# Altium schematic symbol library Audio.SchLib: 96 symbols (part 1 of 2)
Pins are listed as number, name and electrical type; pins without a type are passive.

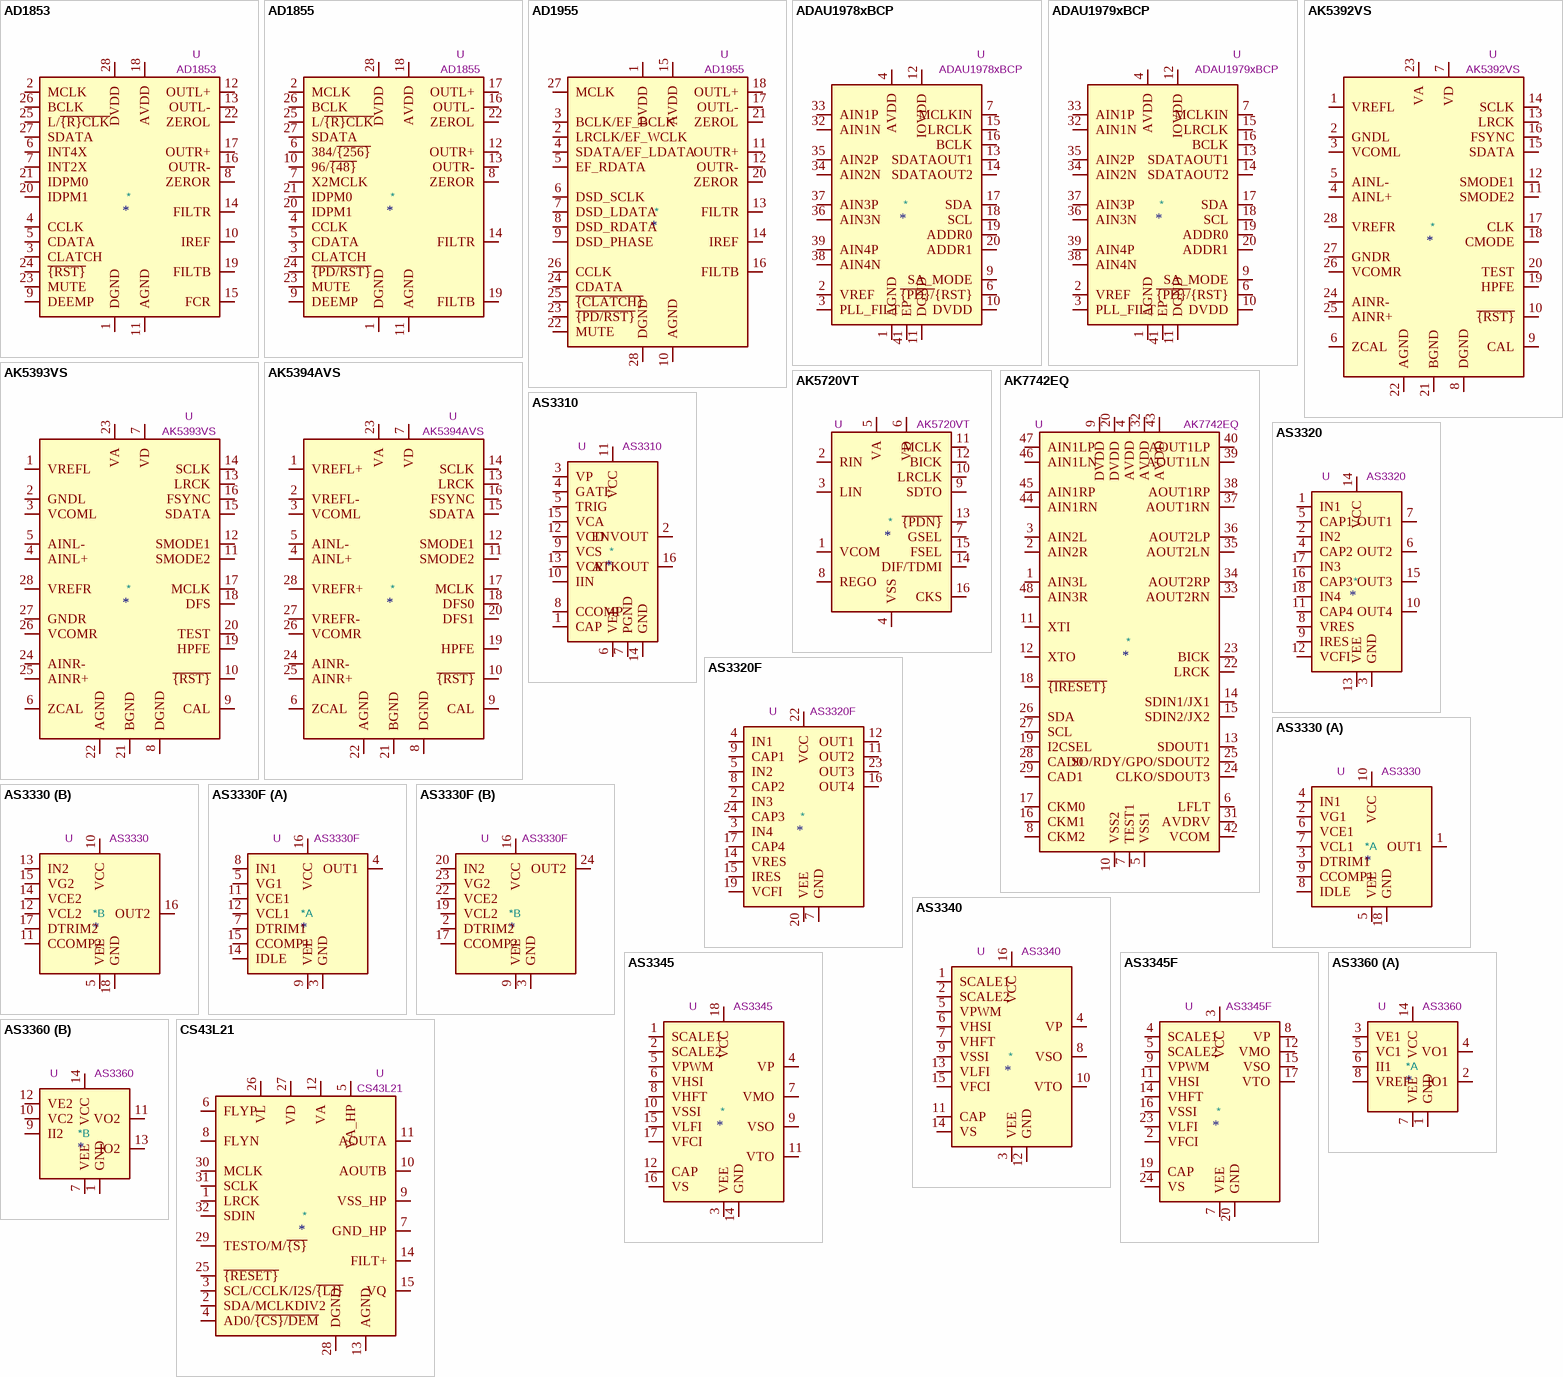
[diagram p0: symbols AD1853 to CS43L21]

## AD1853
designator *  value AD1853  Reference: U
ki_keywords: audio dac 2ch 24bit 192kHz; ki_description: Stereo, 24-Bit, 192 kHz, Multibit Sigma-Delta DAC, SSOP-28; ki_fp_filters: SSOP*5.3x10.2mm*P0.65mm*; Footprint: Package_SO:SSOP-28_5.3x10.2mm_P0.65mm; Datasheet: https://www.analog.com/media/en/technical-documentation/data-sheets/AD1853.pdf
pins: 1 DGND, 2 MCLK, 3 CLATCH, 4 CCLK, 5 CDATA, 6 INT4X, 7 INT2X, 8 ZEROR, 9 DEEMP, 10 IREF, 11 AGND, 12 OUTL+, 13 OUTL-, 14 FILTR, 15 FCR, 16 OUTR-, 17 OUTR+, 18 AVDD, 19 FILTB, 20 IDPM1, 21 IDPM0, 22 ZEROL, 23 MUTE, 24 ~{{RST}}, 25 L/~{{R}CLK}, 26 BCLK, 27 SDATA, 28 DVDD

## AD1855
designator *  value AD1855  Reference: U
ki_keywords: audio dac 2ch 24bit 96kHz; ki_description: Stereo, 96 kHz, Multibit Sigma-Delta DAC, SSOP-28; ki_fp_filters: SSOP*5.3x10.2mm*P0.65mm*; Footprint: Package_SO:SSOP-28_5.3x10.2mm_P0.65mm; Datasheet: https://www.analog.com/media/en/technical-documentation/data-sheets/AD1855.pdf
pins: 1 DGND, 2 MCLK, 3 CLATCH, 4 CCLK, 5 CDATA, 6 384/~{{256}}, 7 X2MCLK, 8 ZEROR, 9 DEEMP, 10 96/~{{48}}, 11 AGND, 12 OUTR+, 13 OUTR-, 14 FILTR, 15 AGND hidden, 16 OUTL-, 17 OUTL+, 18 AVDD, 19 FILTB, 20 IDPM1, 21 IDPM0, 22 ZEROL, 23 MUTE, 24 ~{{PD/RST}}, 25 L/~{{R}CLK}, 26 BCLK, 27 SDATA, 28 DVDD

## AD1955
designator *  value AD1955  Reference: U
ki_keywords: audio dac 2ch 24bit 192kHz; ki_description: High Performance Multibit Sigma-Delta DAC with SACD Playback, SSOP-28; ki_fp_filters: SSOP*5.3x10.2mm*P0.65mm*; Footprint: Package_SO:SSOP-28_5.3x10.2mm_P0.65mm; Datasheet: https://www.analog.com/media/en/technical-documentation/data-sheets/AD1955.pdf
pins: 1 DVDD, 2 LRCLK/EF_WCLK, 3 BCLK/EF_BCLK, 4 SDATA/EF_LDATA, 5 EF_RDATA, 6 DSD_SCLK, 7 DSD_LDATA, 8 DSD_RDATA, 9 DSD_PHASE, 10 AGND, 11 OUTR+, 12 OUTR-, 13 FILTR, 14 IREF, 15 AVDD, 16 FILTB, 17 OUTL-, 18 OUTL+, 19 AGND hidden, 20 ZEROR, 21 ZEROL, 22 MUTE, 23 ~{{PD/RST}}, 24 CDATA, 25 ~{{CLATCH}}, 26 CCLK, 27 MCLK, 28 DGND

## ADAU1978xBCP
designator *  value ADAU1978xBCP  Reference: U
ki_keywords: Audio ADC I2S TDM; ki_description: Quad Analog-to-Digital Converter, 2Vrms differential inputs, LFCSP-40; ki_fp_filters: LFCSP*1EP*6x6mm*P0.5mm*EP3.9x3.9mm*; Footprint: Package_CSP:LFCSP-40-1EP_6x6mm_P0.5mm_EP3.9x3.9mm; Datasheet: https://www.analog.com/media/en/technical-documentation/data-sheets/ADAU1978.pdf
pins: 1 AGND, 2 VREF, 3 PLL_FILT, 4 AVDD, 5 AGND hidden, 6 ~{{PD}/}{RST}, 7 MCLKIN, 8 NC hidden, 9 SA_MODE, 10 DVDD, 11 DGND, 12 IOVDD, 13 SDATAOUT1, 14 SDATAOUT2, 15 LRCLK, 16 BCLK, 17 SDA, 18 SCL, 19 ADDR0, 20 ADDR1, 21 AGND hidden, 22 AGND hidden, 23 NC hidden, 24 NC hidden, 25 NC hidden, 26 NC hidden, 27 NC hidden, 28 AGND hidden, 29 AGND hidden, 30 NC hidden, 31 AVDD hidden, 32 AIN1N, 33 AIN1P, 34 AIN2N, 35 AIN2P, 36 AIN3N, 37 AIN3P, 38 AIN4N, 39 AIN4P, 40 AVDD hidden, 41 EP

## ADAU1979xBCP
designator *  value ADAU1979xBCP  Reference: U
ki_keywords: Audio ADC I2S TDM; ki_description: Quad Analog-to-Digital Converter, 4.5Vrms differential inputs, LFCSP-40; ki_fp_filters: LFCSP*1EP*6x6mm*P0.5mm*EP3.9x3.9mm*; Footprint: Package_CSP:LFCSP-40-1EP_6x6mm_P0.5mm_EP3.9x3.9mm; Datasheet: https://www.analog.com/media/en/technical-documentation/data-sheets/ADAU1979.pdf
pins: 1 AGND, 2 VREF, 3 PLL_FILT, 4 AVDD, 5 AGND hidden, 6 ~{{PD}/}{RST}, 7 MCLKIN, 8 NC hidden, 9 SA_MODE, 10 DVDD, 11 DGND, 12 IOVDD, 13 SDATAOUT1, 14 SDATAOUT2, 15 LRCLK, 16 BCLK, 17 SDA, 18 SCL, 19 ADDR0, 20 ADDR1, 21 AGND hidden, 22 AGND hidden, 23 NC hidden, 24 NC hidden, 25 NC hidden, 26 NC hidden, 27 NC hidden, 28 AGND hidden, 29 AGND hidden, 30 NC hidden, 31 AVDD hidden, 32 AIN1N, 33 AIN1P, 34 AIN2N, 35 AIN2P, 36 AIN3N, 37 AIN3P, 38 AIN4N, 39 AIN4P, 40 AVDD hidden, 41 EP

## AK5392VS
designator *  value AK5392VS  Reference: U
ki_keywords: audio adc 2ch 24bit; ki_description: Enhanced Dual Bit Sigma-Delta 24Bit ADC, SOIC-28; ki_fp_filters: SOIC*7.5x18.7mm*P1.27mm*; Footprint: Package_SO:SOIC-28W_7.5x18.7mm_P1.27mm; Datasheet: https://media.digikey.com/pdf/Data%20Sheets/AKM%20Semiconductor%20Inc.%20PDFs/AK5392.pdf
pins: 1 VREFL, 2 GNDL, 3 VCOML, 4 AINL+, 5 AINL-, 6 ZCAL, 7 VD, 8 DGND, 9 CAL, 10 ~{{RST}}, 11 SMODE2, 12 SMODE1, 13 LRCK, 14 SCLK, 15 SDATA, 16 FSYNC, 17 CLK, 18 CMODE, 19 HPFE, 20 TEST, 21 BGND, 22 AGND, 23 VA, 24 AINR-, 25 AINR+, 26 VCOMR, 27 GNDR, 28 VREFR

## AK5393VS
designator *  value AK5393VS  Reference: U
ki_keywords: audio adc 2ch 24bit 96kHz; ki_description: Enhanced Dual Bit Sigma-Delta 96kHz 24-Bit ADC, SOIC-28; ki_fp_filters: SOIC*7.5x18.7mm*P1.27mm*; Footprint: Package_SO:SOIC-28W_7.5x18.7mm_P1.27mm; Datasheet: https://www.akm.com/akm/en/file/datasheet/AK5393VS.pdf
pins: 1 VREFL, 2 GNDL, 3 VCOML, 4 AINL+, 5 AINL-, 6 ZCAL, 7 VD, 8 DGND, 9 CAL, 10 ~{{RST}}, 11 SMODE2, 12 SMODE1, 13 LRCK, 14 SCLK, 15 SDATA, 16 FSYNC, 17 MCLK, 18 DFS, 19 HPFE, 20 TEST, 21 BGND, 22 AGND, 23 VA, 24 AINR-, 25 AINR+, 26 VCOMR, 27 GNDR, 28 VREFR

## AK5394AVS
designator *  value AK5394AVS  Reference: U
ki_keywords: audio adc 2ch 24bit 192kHz; ki_description: Super High Performance 192kHz 24-Bit Sigma-Delta ADC, SOIC-28; ki_fp_filters: SOIC*7.5x18.7mm*P1.27mm*; Footprint: Package_SO:SOIC-28W_7.5x18.7mm_P1.27mm; Datasheet: http://www.akm.com/akm/en/file/datasheet/AK5394AVS.pdf
pins: 1 VREFL+, 2 VREFL-, 3 VCOML, 4 AINL+, 5 AINL-, 6 ZCAL, 7 VD, 8 DGND, 9 CAL, 10 ~{{RST}}, 11 SMODE2, 12 SMODE1, 13 LRCK, 14 SCLK, 15 SDATA, 16 FSYNC, 17 MCLK, 18 DFS0, 19 HPFE, 20 DFS1, 21 BGND, 22 AGND, 23 VA, 24 AINR-, 25 AINR+, 26 VCOMR, 27 VREFR-, 28 VREFR+

## AK5720VT
designator *  value AK5720VT  Reference: U
ki_keywords: audio adc 2ch 24bit 96kHz I2S MSB TDM; ki_description: Stereo, 96kHz, 24-Bit, Delta-Sigma ADC, TSSOP-16; ki_fp_filters: TSSOP*4.4x5mm*P0.65mm*; Footprint: Package_SO:TSSOP-16_4.4x5mm_P0.65mm; Datasheet: https://www.akm.com/akm/en/file/datasheet/AK5720VT.pdf
pins: 1 VCOM, 2 RIN, 3 LIN, 4 VSS, 5 VA, 6 VD, 7 GSEL, 8 REGO, 9 SDTO, 10 LRCLK, 11 MCLK, 12 BICK, 13 ~{{PDN}}, 14 DIF/TDMI, 15 FSEL, 16 CKS

## AK7742EQ
designator *  value AK7742EQ  Reference: U
ki_keywords: audio adc 2ch dac 4ch dsp; ki_description: 24bit 2ch ADC + 24bit 4ch DAC with Audio DSP, LQFP-48; ki_fp_filters: LQFP*7x7mm*P0.5mm*; Footprint: Package_QFP:LQFP-48_7x7mm_P0.5mm; Datasheet: https://www.akm.com/akm/en/file/datasheet/AK7742EQ.pdf
pins: 1 AIN3L, 2 AIN2R, 3 AIN2L, 4 AVDD, 5 VSS1, 6 LFLT, 7 TEST1, 8 CKM2, 9 DVDD, 10 VSS2, 11 XTI, 12 XTO, 13 SDOUT1, 14 SDIN1/JX1, 15 SDIN2/JX2, 16 CKM1, 17 CKM0, 18 ~{{IRESET}}, 19 I2CSEL, 20 DVDD, 21 VSS2 hidden, 22 LRCK, 23 BICK, 24 CLKO/SDOUT3, 25 SO/RDY/GPO/SDOUT2, 26 SDA, 27 SCL, 28 CAD0, 29 CAD1, 30 VSS1 hidden, 31 AVDRV, 32 AVDD, 33 AOUT2RN, 34 AOUT2RP, 35 AOUT2LN, 36 AOUT2LP, 37 AOUT1RN, 38 AOUT1RP, 39 AOUT1LN, 40 AOUT1LP, 41 VSS1 hidden, 42 VCOM, 43 AVDD, 44 AIN1RN, 45 AIN1RP, 46 AIN1LN, 47 AIN1LP, 48 AIN3R

## AS3310
designator *  value AS3310  Reference: U
ki_keywords: VCEG CEM3310 ALFA; ki_description: ADSR Voltage Controlled Envelope Generator, DIP-16/SOIC-16; ki_fp_filters: DIP*W7.62mm* SOIC*3.9x9.9mm*P1.27mm*; Datasheet: http://www.alfarzpp.lv/eng/sc/AS3310.pdf
pins: 1 CAP, 2 ENVOUT, 3 VP, 4 GATE, 5 TRIG, 6 VEE, 7 PGND, 8 CCOMP, 9 VCS, 10 IIN, 11 VCC, 12 VCD, 13 VCR, 14 GND, 15 VCA, 16 ATKOUT

## AS3320
designator *  value AS3320  Reference: U
ki_keywords: VCF CEM3320 ALFA; ki_description: Voltage Controlled Filter (VCF), DIP-18; ki_fp_filters: DIP*W7.62mm*; Footprint: Package_DIP:DIP-18_W7.62mm; Datasheet: http://www.alfarzpp.lv/eng/sc/AS3320.pdf
pins: 1 IN1, 2 IN2, 3 GND, 4 CAP2, 5 CAP1, 6 OUT2, 7 OUT1, 8 VRES, 9 IRES, 10 OUT4, 11 CAP4, 12 VCFI, 13 VEE, 14 VCC, 15 OUT3, 16 CAP3, 17 IN3, 18 IN4

## AS3320F
designator *  value AS3320F  Reference: U
ki_keywords: VCF CEM3320 ALFA; ki_description: Voltage Controlled Filter (VCF), QFN-24; ki_fp_filters: QFN*1EP*4x4mm*P0.5mm*; Footprint: Package_DFN_QFN:QFN-24-1EP_4x4mm_P0.5mm_EP2.7x2.7mm; Datasheet: http://www.alfarzpp.lv/eng/sc/AS3320.pdf
pins: 1 NC hidden, 2 IN3, 3 IN4, 4 IN1, 5 IN2, 6 NC hidden, 7 GND, 8 CAP2, 9 CAP1, 10 NC hidden, 11 OUT2, 12 OUT1, 13 NC hidden, 14 VRES, 15 IRES, 16 OUT4, 17 CAP4, 18 NC hidden, 19 VCFI, 20 VEE, 21 NC hidden, 22 VCC, 23 OUT3, 24 CAP3

## AS3330
designator *  value AS3330  Reference: U
ki_keywords: VCA CEM3330 ALFA; ki_description: Dual Voltage Controlled Amplifier (VCA), DIP-18; ki_fp_filters: DIP*W7.62mm*; Footprint: Package_DIP:DIP-18_W7.62mm; Datasheet: http://www.alfarzpp.lv/eng/sc/AS3330.pdf
part A pins: 1 OUT1, 2 VG1, 3 DTRIM1, 4 IN1, 5 VEE, 6 VCE1, 7 VCL1, 8 IDLE, 9 CCOMP1, 10 VCC, 18 GND
part B pins: 5 VEE, 10 VCC, 11 CCOMP2, 12 VCL2, 13 IN2, 14 VCE2, 15 VG2, 16 OUT2, 17 DTRIM2, 18 GND

## AS3330F
designator *  value AS3330F  Reference: U
ki_keywords: VCA CEM3330 ALFA; ki_description: Dual Voltage Controlled Amplifier (VCA), QFN-24; ki_fp_filters: QFN*1EP*4x4mm*P0.5mm*; Footprint: Package_DFN_QFN:QFN-24-1EP_4x4mm_P0.5mm_EP2.7x2.7mm; Datasheet: http://www.alfarzpp.lv/eng/sc/AS3330.pdf
part A pins: 1 NC hidden, 3 GND, 4 OUT1, 5 VG1, 6 NC hidden, 7 DTRIM1, 8 IN1, 9 VEE, 10 NC hidden, 11 VCE1, 12 VCL1, 13 NC hidden, 14 IDLE, 15 CCOMP1, 16 VCC, 18 NC hidden, 21 NC hidden
part B pins: 2 DTRIM2, 3 GND, 9 VEE, 16 VCC, 17 CCOMP2, 19 VCL2, 20 IN2, 22 VCE2, 23 VG2, 24 OUT2

## AS3340
designator *  value AS3340  Reference: U
ki_keywords: VCO CEM340 ALFA; ki_description: Voltage Controlled Oscillator (VCO), DIP-16/SOIC-16; ki_fp_filters: DIP*W7.62mm* SOIC*3.9x9.9mm*P1.27mm*; Datasheet: http://www.alfarzpp.lv/eng/sc/AS3340.pdf
pins: 1 SCALE1, 2 SCALE2, 3 VEE, 4 VP, 5 VPWM, 6 VHSI, 7 VHFT, 8 VSO, 9 VSSI, 10 VTO, 11 CAP, 12 GND, 13 VLFI, 14 VS, 15 VFCI, 16 VCC

## AS3345
designator *  value AS3345  Reference: U
ki_keywords: VCO CEM345 ALFA; ki_description: Voltage Controlled Oscillator (VCO), DIP-18; ki_fp_filters: DIP*W7.62mm*; Footprint: Package_DIP:DIP-18_W7.62mm; Datasheet: http://www.alfarzpp.lv/eng/sc/AS3340.pdf
pins: 1 SCALE1, 2 SCALE2, 3 VEE, 4 VP, 5 VPWM, 6 VHSI, 7 VMO, 8 VHFT, 9 VSO, 10 VSSI, 11 VTO, 12 CAP, 13 GND hidden, 14 GND, 15 VLFI, 16 VS, 17 VFCI, 18 VCC

## AS3345F
designator *  value AS3345F  Reference: U
ki_keywords: VCO CEM345 ALFA; ki_description: Voltage Controlled Oscillator (VCO), QFN-24; ki_fp_filters: QFN*1EP*4x4mm*P0.5mm*; Footprint: Package_DFN_QFN:QFN-24-1EP_4x4mm_P0.5mm_EP2.7x2.7mm; Datasheet: http://www.alfarzpp.lv/eng/sc/AS3340.pdf
pins: 1 NC hidden, 2 VFCI, 3 VCC, 4 SCALE1, 5 SCALE2, 6 NC hidden, 7 VEE, 8 VP, 9 VPWM, 10 NC hidden, 11 VHSI, 12 VMO, 13 NC hidden, 14 VHFT, 15 VSO, 16 VSSI, 17 VTO, 18 NC hidden, 19 CAP, 20 GND, 21 NC hidden, 22 GND hidden, 23 VLFI, 24 VS

## AS3360
designator *  value AS3360  Reference: U
ki_keywords: VCA CEM3360 ALFA; ki_description: Dual Voltage Controlled Amplifier (VCA), DIP-14/SOIC-14; ki_fp_filters: DIP*W7.62mm* SOIC*3.9x8.7mm*P1.27mm*; Datasheet: http://www.alfarzpp.lv/eng/sc/AS3360.pdf
part A pins: 1 GND, 2 IO1, 3 VE1, 4 VO1, 5 VC1, 6 II1, 7 VEE, 8 VREF, 14 VCC
part B pins: 1 GND, 7 VEE, 9 II2, 10 VC2, 11 VO2, 12 VE2, 13 IO2, 14 VCC

## CS43L21
designator *  value CS43L21  Reference: U
ki_keywords: audio dac 2ch 24bit 96kHz; ki_description: Low-Power, Stereo Digital-to-Analog Converter, QFN-32; ki_fp_filters: QFN*5x5mm*P0.5mm*; Footprint: Package_DFN_QFN:QFN-32-1EP_5x5mm_P0.5mm_EP3.45x3.45mm; Datasheet: https://d3uzseaevmutz1.cloudfront.net/pubs/proDatasheet/CS43L21_F1.pdf
pins: 1 LRCK, 2 SDA/MCLKDIV2, 3 SCL/CCLK/I2S/~{{LJ}}, 4 AD0/~{{CS}/DEM}, 5 VA_HP, 6 FLYP, 7 GND_HP, 8 FLYN, 9 VSS_HP, 10 AOUTB, 11 AOUTA, 12 VA, 13 AGND, 14 FILT+, 15 VQ, 16 NIC hidden, 17 TSTO hidden, 18 TSTO hidden, 19 TSTO hidden, 20 TSTO hidden, 21 TSTO hidden, 22 TSTO hidden, 23 TSTO hidden, 24 TSTO hidden, 25 ~{{RESET}}, 26 VL, 27 VD, 28 DGND, 29 TESTO/M/~{{S}}, 30 MCLK, 31 SCLK, 32 SDIN, 33 AGND hidden

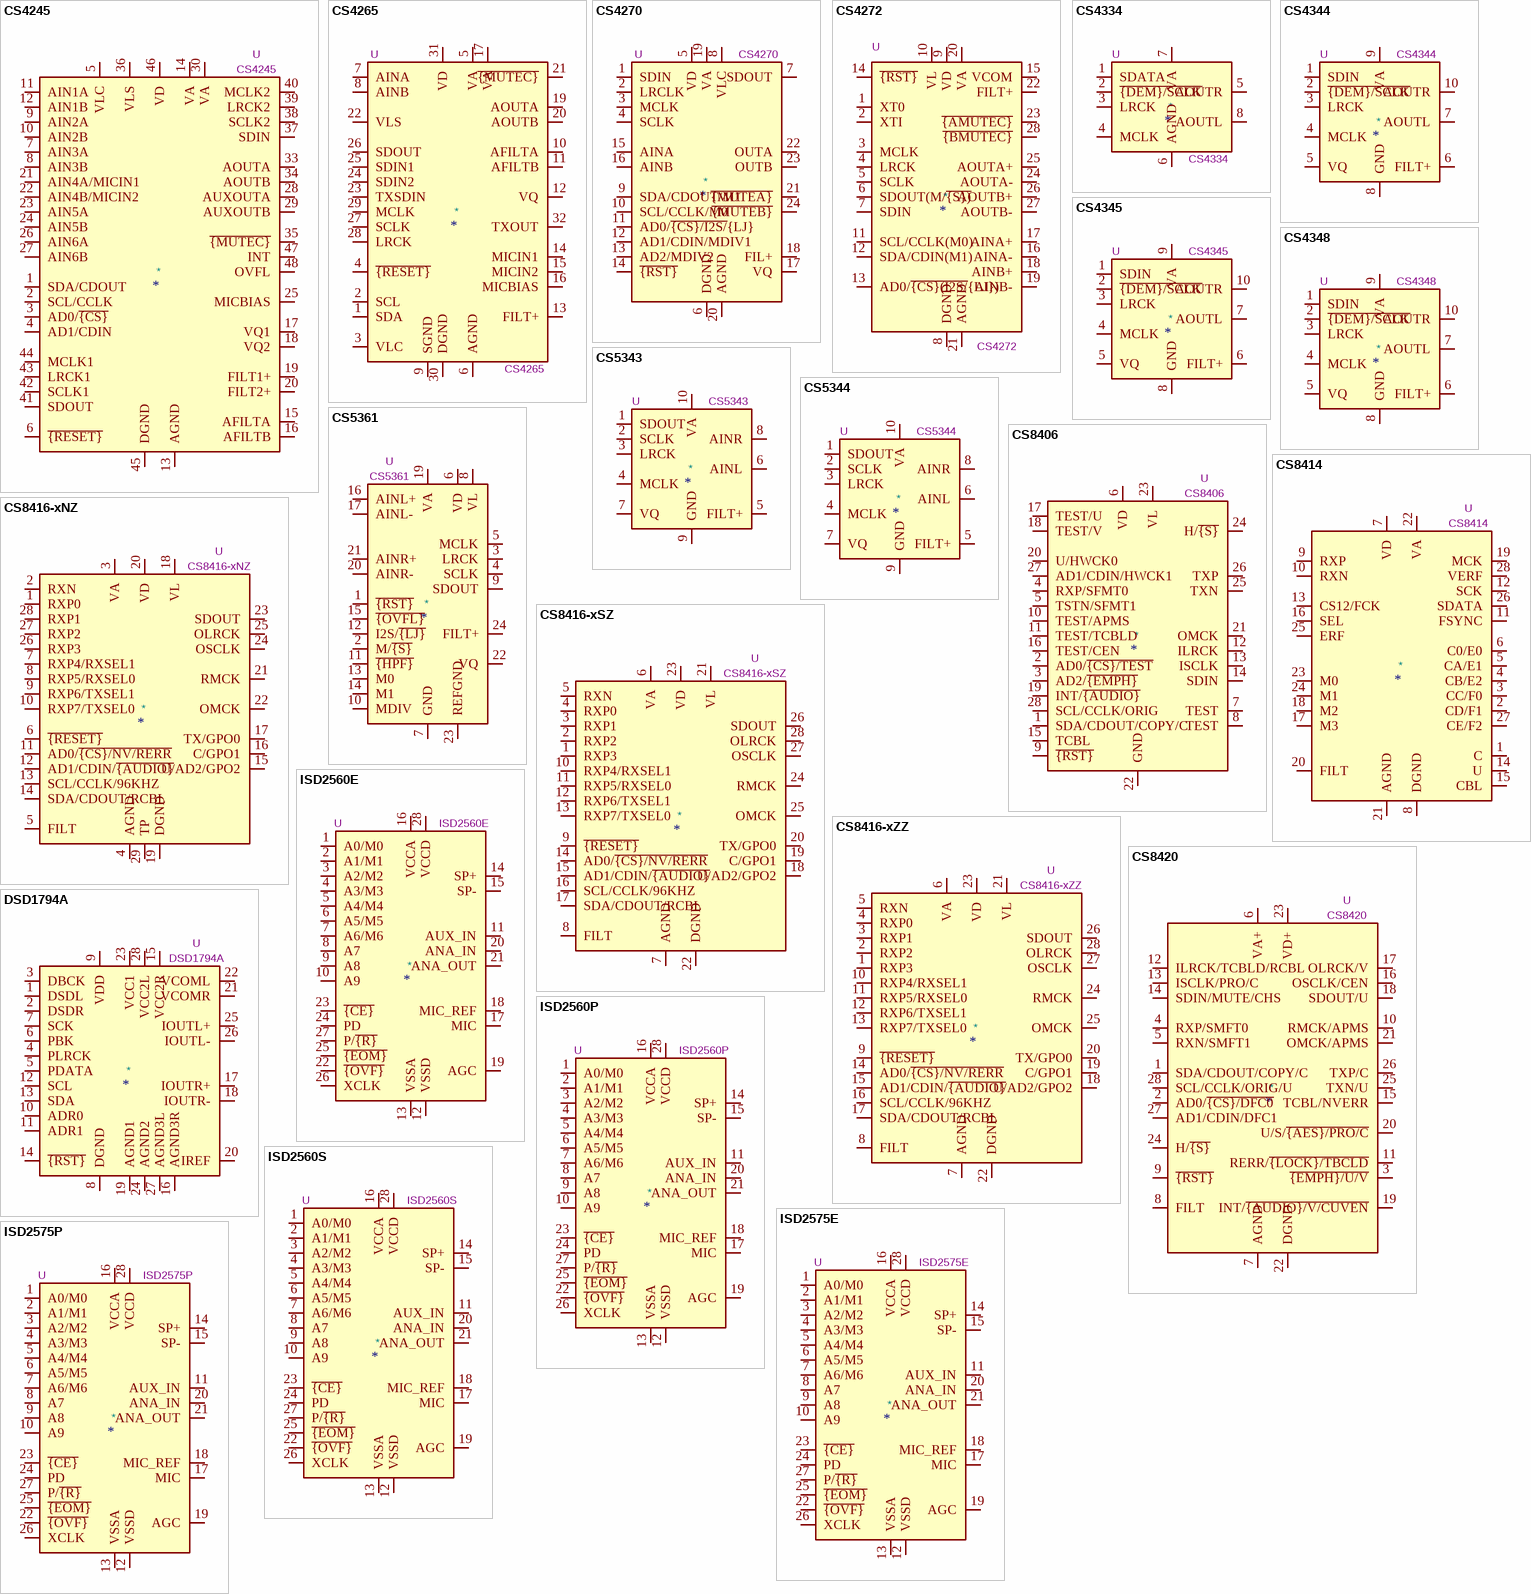
[diagram p1: symbols CS4245 to ISD2575P]

## CS4245
designator *  value CS4245  Reference: U
ki_keywords: audio codec 2ch 24bit 192kHz; ki_description: 104 dB, 24-Bit, 192 kHz Stereo Audio CODEC, LQFP-48; ki_fp_filters: LQFP*7x7mm*P0.5mm*; Footprint: Package_QFP:LQFP-48_7x7mm_P0.5mm; Datasheet: https://d3uzseaevmutz1.cloudfront.net/pubs/proDatasheet/CS4245_F3.pdf
pins: 1 SDA/CDOUT, 2 SCL/CCLK, 3 AD0/~{{CS}}, 4 AD1/CDIN, 5 VLC, 6 ~{{RESET}}, 7 AIN3A, 8 AIN3B, 9 AIN2A, 10 AIN2B, 11 AIN1A, 12 AIN1B, 13 AGND, 14 VA, 15 AFILTA, 16 AFILTB, 17 VQ1, 18 VQ2, 19 FILT1+, 20 FILT2+, 21 AIN4A/MICIN1, 22 AIN4B/MICIN2, 23 AIN5A, 24 AIN5B, 25 MICBIAS, 26 AIN6A, 27 AIN6B, 28 AUXOUTA, 29 AUXOUTB, 30 VA, 31 AGND hidden, 32 AGND hidden, 33 AOUTA, 34 AOUTB, 35 ~{{MUTEC}}, 36 VLS, 37 SDIN, 38 SCLK2, 39 LRCK2, 40 MCLK2, 41 SDOUT, 42 SCLK1, 43 LRCK1, 44 MCLK1, 45 DGND, 46 VD, 47 INT, 48 OVFL

## CS4265
designator *  value CS4265  Reference: U
ki_keywords: Audio codec 24bit 192khz stereo; ki_description: 104 dB, 24-Bit, 192 kHz Stereo Audio CODEC, QFN-32; ki_fp_filters: QFN*1EP*5x5mm*0.5mm*; Footprint: Package_DFN_QFN:QFN-32-1EP_5x5mm_P0.5mm_EP3.6x3.6mm; Datasheet: https://statics.cirrus.com/pubs/proDatasheet/CS4265_F5.pdf
pins: 1 SDA, 2 SCL, 3 VLC, 4 ~{{RESET}}, 5 VA, 6 AGND, 7 AINA, 8 AINB, 9 SGND, 10 AFILTA, 11 AFILTB, 12 VQ, 13 FILT+, 14 MICIN1, 15 MICIN2, 16 MICBIAS, 17 VA, 18 AGND hidden, 19 AOUTA, 20 AOUTB, 21 ~{{MUTEC}}, 22 VLS, 23 TXSDIN, 24 SDIN2, 25 SDIN1, 26 SDOUT, 27 SCLK, 28 LRCK, 29 MCLK, 30 DGND, 31 VD, 32 TXOUT, 33 AGND hidden

## CS4270
designator *  value CS4270  Reference: U
ki_keywords: Audio Codec; ki_description: 24-Bit, 192-kHz Stereo Audio CODEC, TSSOP-24; ki_fp_filters: TSSOP*4.4x7.8mm*P0.65mm*; Footprint: Package_SO:TSSOP-24_4.4x7.8mm_P0.65mm; Datasheet: https://statics.cirrus.com/pubs/proDatasheet/CS4270_F1.pdf
pins: 1 SDIN, 2 LRCLK, 3 MCLK, 4 SCLK, 5 VD, 6 DGND, 7 SDOUT, 8 VLC, 9 SDA/CDOUT/M1, 10 SCL/CCLK/M0, 11 AD0/~{{CS}/I2S/}{LJ}, 12 AD1/CDIN/MDIV1, 13 AD2/MDIV2, 14 ~{{RST}}, 15 AINA, 16 AINB, 17 VQ, 18 FIL+, 19 VA, 20 AGND, 21 ~{{MUTEA}}, 22 OUTA, 23 OUTB, 24 ~{{MUTEB}}

## CS4272
designator *  value CS4272  Reference: U
ki_keywords: stereo 2ch audio codec i2s 24bit 192kHz; ki_description: 24-Bit, 192 kHz Stereo Audio CODEC, TSSOP-28; ki_fp_filters: TSSOP*4.4x9.7mm*P0.65mm*; Footprint: Package_SO:TSSOP-28_4.4x9.7mm_P0.65mm; Datasheet: https://statics.cirrus.com/pubs/proDatasheet/CS4272_F1.pdf
pins: 1 XT0, 2 XTI, 3 MCLK, 4 LRCK, 5 SCLK, 6 SDOUT(M/~{{S})}, 7 SDIN, 8 DGND, 9 VD, 10 VL, 11 SCL/CCLK(M0), 12 SDA/CDIN(M1), 13 AD0/~{{CS}(I2S/}{LJ}), 14 ~{{RST}}, 15 VCOM, 16 AINA-, 17 AINA+, 18 AINB+, 19 AINB-, 20 VA, 21 AGND, 22 FILT+, 23 ~{{AMUTEC}}, 24 AOUTA-, 25 AOUTA+, 26 AOUTB+, 27 AOUTB-, 28 ~{{BMUTEC}}

## CS4334
designator *  value CS4334  Reference: U
ki_keywords: stereo 2ch audio codec i2s 24bit 96kHz; ki_description: 24-Bit, 96kHz Stereo D/A Converter, SOIC-8; ki_fp_filters: SOIC*3.9x4.9mm*P1.27mm*; Footprint: Package_SO:SOIC-8_3.9x4.9mm_P1.27mm; Datasheet: https://statics.cirrus.com/pubs/proDatasheet/CS4334-5-8-9_F7.pdf
pins: 1 SDATA, 2 ~{{DEM}/SCLK}, 3 LRCK, 4 MCLK, 5 AOUTR, 6 AGND, 7 VA, 8 AOUTL

## CS4344
designator *  value CS4344  Reference: U
ki_keywords: stereo 2ch audio codec; ki_description: 16 to 24-Bit, 192 kHz Stereo D/A Converter, I2S Audio Format, TSSOP-10; ki_fp_filters: TSSOP*3x3mm*P0.5mm*; Footprint: Package_SO:TSSOP-10_3x3mm_P0.5mm; Datasheet: https://statics.cirrus.com/pubs/proDatasheet/CS4344-45-48_F2.pdf
pins: 1 SDIN, 2 ~{{DEM}/SCLK}, 3 LRCK, 4 MCLK, 5 VQ, 6 FILT+, 7 AOUTL, 8 GND, 9 VA, 10 AOUTR

## CS4345
designator *  value CS4345  Reference: U
ki_keywords: stereo 2ch audio codec; ki_description: 16 to 24-Bit, 192 kHz Stereo D/A Converter, Left-Justified Audio Format, TSSOP-10; ki_fp_filters: TSSOP*3x3mm*P0.5mm*; Footprint: Package_SO:TSSOP-10_3x3mm_P0.5mm; Datasheet: https://statics.cirrus.com/pubs/proDatasheet/CS4344-45-48_F2.pdf
pins: 1 SDIN, 2 ~{{DEM}/SCLK}, 3 LRCK, 4 MCLK, 5 VQ, 6 FILT+, 7 AOUTL, 8 GND, 9 VA, 10 AOUTR

## CS4348
designator *  value CS4348  Reference: U
ki_keywords: stereo 2ch audio codec; ki_description: 16-Bit, 192 kHz Stereo D/A Converter, Right-Justified Audio Format, TSSOP-10; ki_fp_filters: TSSOP*3x3mm*P0.5mm*; Footprint: Package_SO:TSSOP-10_3x3mm_P0.5mm; Datasheet: https://statics.cirrus.com/pubs/proDatasheet/CS4344-45-48_F2.pdf
pins: 1 SDIN, 2 ~{{DEM}/SCLK}, 3 LRCK, 4 MCLK, 5 VQ, 6 FILT+, 7 AOUTL, 8 GND, 9 VA, 10 AOUTR

## CS5343
designator *  value CS5343  Reference: U
ki_keywords: stereo 2ch audio codec; ki_description: 98 dB, 96 kHz, 24bit Stereo Audio A/D Converter, I2S Audio Format, TSSOP-10; ki_fp_filters: TSSOP*3x3mm*P0.5mm*; Footprint: Package_SO:TSSOP-10_3x3mm_P0.5mm; Datasheet: https://statics.cirrus.com/pubs/proDatasheet/CS5343-44_F5.pdf
pins: 1 SDOUT, 2 SCLK, 3 LRCK, 4 MCLK, 5 FILT+, 6 AINL, 7 VQ, 8 AINR, 9 GND, 10 VA

## CS5344
designator *  value CS5344  Reference: U
ki_keywords: stereo 2ch audio codec; ki_description: 98 dB, 96 kHz, 24bit Stereo Audio A/D Converter, Left-Justified Audio Format, TSSOP-10; ki_fp_filters: TSSOP*3x3mm*P0.5mm*; Footprint: Package_SO:TSSOP-10_3x3mm_P0.5mm; Datasheet: https://statics.cirrus.com/pubs/proDatasheet/CS5343-44_F5.pdf
pins: 1 SDOUT, 2 SCLK, 3 LRCK, 4 MCLK, 5 FILT+, 6 AINL, 7 VQ, 8 AINR, 9 GND, 10 VA

## CS5361
designator *  value CS5361  Reference: U
ki_keywords: audio adc 2ch 24bit 192kHz; ki_description: 114 dB, 192 kHz, Multi-Bit Audio A/D Converter, SOIC-24/TSSOP-24; ki_fp_filters: SOIC*7.5x15.4mm*P1.27mm* TSSOP*4.4x7.8mm*P0.65mm*; Datasheet: https://d3uzseaevmutz1.cloudfront.net/pubs/proDatasheet/CS5361_F2.pdf
pins: 1 ~{{RST}}, 2 M/~{{S}}, 3 LRCK, 4 SCLK, 5 MCLK, 6 VD, 7 GND, 8 VL, 9 SDOUT, 10 MDIV, 11 ~{{HPF}}, 12 I2S/~{{LJ}}, 13 M0, 14 M1, 15 ~{{OVFL}}, 16 AINL+, 17 AINL-, 18 GND hidden, 19 VA, 20 AINR-, 21 AINR+, 22 VQ, 23 REFGND, 24 FILT+

## CS8406
designator *  value CS8406  Reference: U
ki_keywords: audio digital interface transmitter 192kHz; ki_description: 192 kHz Digital Audio Interface Transmitter, SOIC-28/TSSOP-28; ki_fp_filters: SOIC*7.5x17.9mm*P1.27mm* TSSOP*4.4x9.7mm*P0.65mm*; Datasheet: https://d3uzseaevmutz1.cloudfront.net/pubs/proDatasheet/CS8406_F6.pdf
pins: 1 SDA/CDOUT/COPY/C, 2 AD0/~{{CS}/TEST}, 3 AD2/~{{EMPH}}, 4 RXP/SFMT0, 5 TSTN/SFMT1, 6 VD, 7 TEST, 8 TEST, 9 ~{{RST}}, 10 TEST/APMS, 11 TEST/TCBLD, 12 ILRCK, 13 ISCLK, 14 SDIN, 15 TCBL, 16 TEST/CEN, 17 TEST/U, 18 TEST/V, 19 INT/~{{AUDIO}}, 20 U/HWCK0, 21 OMCK, 22 GND, 23 VL, 24 H/~{{S}}, 25 TXN, 26 TXP, 27 AD1/CDIN/HWCK1, 28 SCL/CCLK/ORIG

## CS8414
designator *  value CS8414  Reference: U
ki_keywords: audio digital interface receiver; ki_description: 96 kHz Digital Audio Receiver, SOIC-28; ki_fp_filters: SOIC*7.5x17.9mm*P1.27mm*; Footprint: Package_SO:SOIC-28W_7.5x17.9mm_P1.27mm; Datasheet: http://lampizator.eu/LAMPIZATOR/TRANSPORT/CS8414_receiver.pdf
pins: 1 C, 2 CD/F1, 3 CC/F0, 4 CB/E2, 5 CA/E1, 6 C0/E0, 7 VD, 8 DGND, 9 RXP, 10 RXN, 11 FSYNC, 12 SCK, 13 CS12/FCK, 14 U, 15 CBL, 16 SEL, 17 M3, 18 M2, 19 MCK, 20 FILT, 21 AGND, 22 VA, 23 M0, 24 M1, 25 ERF, 26 SDATA, 27 CE/F2, 28 VERF

## CS8416-xNZ
designator *  value CS8416-xNZ  Reference: U
ki_keywords: audio digital interface receiver; ki_description: 192 kHz Digital Audio Interface Receiver, QFN-28; ki_fp_filters: QFN*5x5mm*P0.5mm*; Footprint: Package_DFN_QFN:QFN-28-1EP_5x5mm_P0.5mm_EP3.35x3.35mm; Datasheet: https://d3uzseaevmutz1.cloudfront.net/pubs/proDatasheet/CS8416_F3.pdf
pins: 1 RXP0, 2 RXN, 3 VA, 4 AGND, 5 FILT, 6 ~{{RESET}}, 7 RXP4/RXSEL1, 8 RXP5/RXSEL0, 9 RXP6/TXSEL1, 10 RXP7/TXSEL0, 11 AD0/~{{CS}/NV/RERR}, 12 AD1/CDIN/~{{AUDIO}}, 13 SCL/CCLK/96KHZ, 14 SDA/CDOUT/RCBL, 15 U/AD2/GPO2, 16 C/GPO1, 17 TX/GPO0, 18 VL, 19 DGND, 20 VD, 21 RMCK, 22 OMCK, 23 SDOUT, 24 OSCLK, 25 OLRCK, 26 RXP3, 27 RXP2, 28 RXP1, 29 TP

## CS8416-xSZ
designator *  value CS8416-xSZ  Reference: U
ki_keywords: audio digital interface receiver; ki_description: 192 kHz Digital Audio Interface Receiver, SOIC-28; ki_fp_filters: SOIC*7.5x17.9mm*P1.27mm* TSSOP*4.4x9.7mm*P0.65mm*; Datasheet: https://d3uzseaevmutz1.cloudfront.net/pubs/proDatasheet/CS8416_F3.pdf
pins: 1 RXP3, 2 RXP2, 3 RXP1, 4 RXP0, 5 RXN, 6 VA, 7 AGND, 8 FILT, 9 ~{{RESET}}, 10 RXP4/RXSEL1, 11 RXP5/RXSEL0, 12 RXP6/TXSEL1, 13 RXP7/TXSEL0, 14 AD0/~{{CS}/NV/RERR}, 15 AD1/CDIN/~{{AUDIO}}, 16 SCL/CCLK/96KHZ, 17 SDA/CDOUT/RCBL, 18 U/AD2/GPO2, 19 C/GPO1, 20 TX/GPO0, 21 VL, 22 DGND, 23 VD, 24 RMCK, 25 OMCK, 26 SDOUT, 27 OSCLK, 28 OLRCK

## CS8416-xZZ
designator *  value CS8416-xZZ  Reference: U
ki_keywords: audio digital interface receiver; ki_description: 192 kHz Digital Audio Interface Receiver, TSSOP-28; ki_fp_filters: SOIC*7.5x17.9mm*P1.27mm* TSSOP*4.4x9.7mm*P0.65mm*; Datasheet: https://d3uzseaevmutz1.cloudfront.net/pubs/proDatasheet/CS8416_F3.pdf
pins: 1 RXP3, 2 RXP2, 3 RXP1, 4 RXP0, 5 RXN, 6 VA, 7 AGND, 8 FILT, 9 ~{{RESET}}, 10 RXP4/RXSEL1, 11 RXP5/RXSEL0, 12 RXP6/TXSEL1, 13 RXP7/TXSEL0, 14 AD0/~{{CS}/NV/RERR}, 15 AD1/CDIN/~{{AUDIO}}, 16 SCL/CCLK/96KHZ, 17 SDA/CDOUT/RCBL, 18 U/AD2/GPO2, 19 C/GPO1, 20 TX/GPO0, 21 VL, 22 DGND, 23 VD, 24 RMCK, 25 OMCK, 26 SDOUT, 27 OSCLK, 28 OLRCK

## CS8420
designator *  value CS8420  Reference: U
ki_keywords: audio sample rate converter; ki_description: Digital Audio Sample Rate Converter, SOIC-28; ki_fp_filters: SOIC*7.5x17.9mm*P1.27mm*; Footprint: Package_SO:SOIC-28W_7.5x17.9mm_P1.27mm; Datasheet: https://d3uzseaevmutz1.cloudfront.net/pubs/proDatasheet/CS8420_F4.pdf
pins: 1 SDA/CDOUT/COPY/C, 2 AD0/~{{CS}/DFC0}, 3 ~{{EMPH}/U/V}, 4 RXP/SMFT0, 5 RXN/SMFT1, 6 VA+, 7 AGND, 8 FILT, 9 ~{{RST}}, 10 RMCK/APMS, 11 RERR/~{{LOCK}/TBCLD}, 12 ILRCK/TCBLD/RCBL, 13 ISCLK/PRO/C, 14 SDIN/MUTE/CHS, 15 TCBL/NVERR, 16 OSCLK/CEN, 17 OLRCK/V, 18 SDOUT/U, 19 INT/~{{AUDIO}/V/CUVEN}, 20 U/S/~{{AES}/PRO/C}, 21 OMCK/APMS, 22 DGND, 23 VD+, 24 H/~{{S}}, 25 TXN/U, 26 TXP/C, 27 AD1/CDIN/DFC1, 28 SCL/CCLK/ORIG/U

## DSD1794A
designator *  value DSD1794A  Reference: U
ki_keywords: audio dac 2ch 24bit 192kHz; ki_description: 24-Bit, 192-kHz Sampling, Advanced Segment, Audio Stereo Digital-to-Analog Converter, SW Control, SSOP-28; ki_fp_filters: SSOP*5.3x10.2mm*P0.65mm*; Footprint: Package_SO:SSOP-28_5.3x10.2mm_P0.65mm; Datasheet: http://www.ti.com/lit/ds/symlink/dsd1794a.pdf
pins: 1 DSDL, 2 DSDR, 3 DBCK, 4 PLRCK, 5 PDATA, 6 PBK, 7 SCK, 8 DGND, 9 VDD, 10 ADR0, 11 ADR1, 12 SCL, 13 SDA, 14 ~{{RST}}, 15 VCC2R, 16 AGND3R, 17 IOUTR+, 18 IOUTR-, 19 AGND1, 20 IREF, 21 VCOMR, 22 VCOML, 23 VCC1, 24 AGND2, 25 IOUTL+, 26 IOUTL-, 27 AGND3L, 28 VCC2L

## ISD2560E
designator *  value ISD2560E  Reference: U
ki_keywords: isd2560; ki_description: Single-Chip Voice Record/Playback Device 60-Second Duration, TSOP-I-28; ki_fp_filters: TSOP*11.8x8mm*P0.55mm*; Footprint: Package_SO:TSOP-I-28_11.8x8mm_P0.55mm; Datasheet: https://datasheetspdf.com/pdf-file/700027/Winbond/ISD2560/1
pins: 1 A0/M0, 2 A1/M1, 3 A2/M2, 4 A3/M3, 5 A4/M4, 6 A5/M5, 7 A6/M6, 8 A7, 9 A8, 10 A9, 11 AUX_IN, 12 VSSD, 13 VSSA, 14 SP+, 15 SP-, 16 VCCA, 17 MIC, 18 MIC_REF, 19 AGC, 20 ANA_IN, 21 ANA_OUT, 22 ~{{OVF}}, 23 ~{{CE}}, 24 PD, 25 ~{{EOM}}, 26 XCLK, 27 P/~{{R}}, 28 VCCD

## ISD2560P
designator *  value ISD2560P  Reference: U
ki_keywords: isd2560; ki_description: Single-Chip Voice Record/Playback Device 60-Second Duration, DIP-28; ki_fp_filters: DIP*W15.24mm*; Footprint: Package_DIP:DIP-28_W15.24mm; Datasheet: https://datasheetspdf.com/pdf-file/700027/Winbond/ISD2560/1
pins: 1 A0/M0, 2 A1/M1, 3 A2/M2, 4 A3/M3, 5 A4/M4, 6 A5/M5, 7 A6/M6, 8 A7, 9 A8, 10 A9, 11 AUX_IN, 12 VSSD, 13 VSSA, 14 SP+, 15 SP-, 16 VCCA, 17 MIC, 18 MIC_REF, 19 AGC, 20 ANA_IN, 21 ANA_OUT, 22 ~{{OVF}}, 23 ~{{CE}}, 24 PD, 25 ~{{EOM}}, 26 XCLK, 27 P/~{{R}}, 28 VCCD

## ISD2560S
designator *  value ISD2560S  Reference: U
ki_keywords: isd2560; ki_description: Single-Chip Voice Record/Playback Device 60-Second Duration, SOIC-28; ki_fp_filters: SOIC*7.5x17.9mm*P1.27mm*; Footprint: Package_SO:SOIC-28W_7.5x17.9mm_P1.27mm; Datasheet: https://datasheetspdf.com/pdf-file/700027/Winbond/ISD2560/1
pins: 1 A0/M0, 2 A1/M1, 3 A2/M2, 4 A3/M3, 5 A4/M4, 6 A5/M5, 7 A6/M6, 8 A7, 9 A8, 10 A9, 11 AUX_IN, 12 VSSD, 13 VSSA, 14 SP+, 15 SP-, 16 VCCA, 17 MIC, 18 MIC_REF, 19 AGC, 20 ANA_IN, 21 ANA_OUT, 22 ~{{OVF}}, 23 ~{{CE}}, 24 PD, 25 ~{{EOM}}, 26 XCLK, 27 P/~{{R}}, 28 VCCD

## ISD2575E
designator *  value ISD2575E  Reference: U
ki_keywords: isd2575; ki_description: Single-Chip Voice Record/Playback Device 75-Second Duration, TSOP-I-28; ki_fp_filters: TSOP*11.8x8mm*P0.55mm*; Footprint: Package_SO:TSOP-I-28_11.8x8mm_P0.55mm; Datasheet: https://datasheetspdf.com/pdf-file/700027/Winbond/ISD2560/1
pins: 1 A0/M0, 2 A1/M1, 3 A2/M2, 4 A3/M3, 5 A4/M4, 6 A5/M5, 7 A6/M6, 8 A7, 9 A8, 10 A9, 11 AUX_IN, 12 VSSD, 13 VSSA, 14 SP+, 15 SP-, 16 VCCA, 17 MIC, 18 MIC_REF, 19 AGC, 20 ANA_IN, 21 ANA_OUT, 22 ~{{OVF}}, 23 ~{{CE}}, 24 PD, 25 ~{{EOM}}, 26 XCLK, 27 P/~{{R}}, 28 VCCD

## ISD2575P
designator *  value ISD2575P  Reference: U
ki_keywords: isd2575; ki_description: Single-Chip Voice Record/Playback Device 75-Second Duration, DIP-28; ki_fp_filters: DIP*W15.24mm*; Footprint: Package_DIP:DIP-28_W15.24mm; Datasheet: https://datasheetspdf.com/pdf-file/700027/Winbond/ISD2560/1
pins: 1 A0/M0, 2 A1/M1, 3 A2/M2, 4 A3/M3, 5 A4/M4, 6 A5/M5, 7 A6/M6, 8 A7, 9 A8, 10 A9, 11 AUX_IN, 12 VSSD, 13 VSSA, 14 SP+, 15 SP-, 16 VCCA, 17 MIC, 18 MIC_REF, 19 AGC, 20 ANA_IN, 21 ANA_OUT, 22 ~{{OVF}}, 23 ~{{CE}}, 24 PD, 25 ~{{EOM}}, 26 XCLK, 27 P/~{{R}}, 28 VCCD

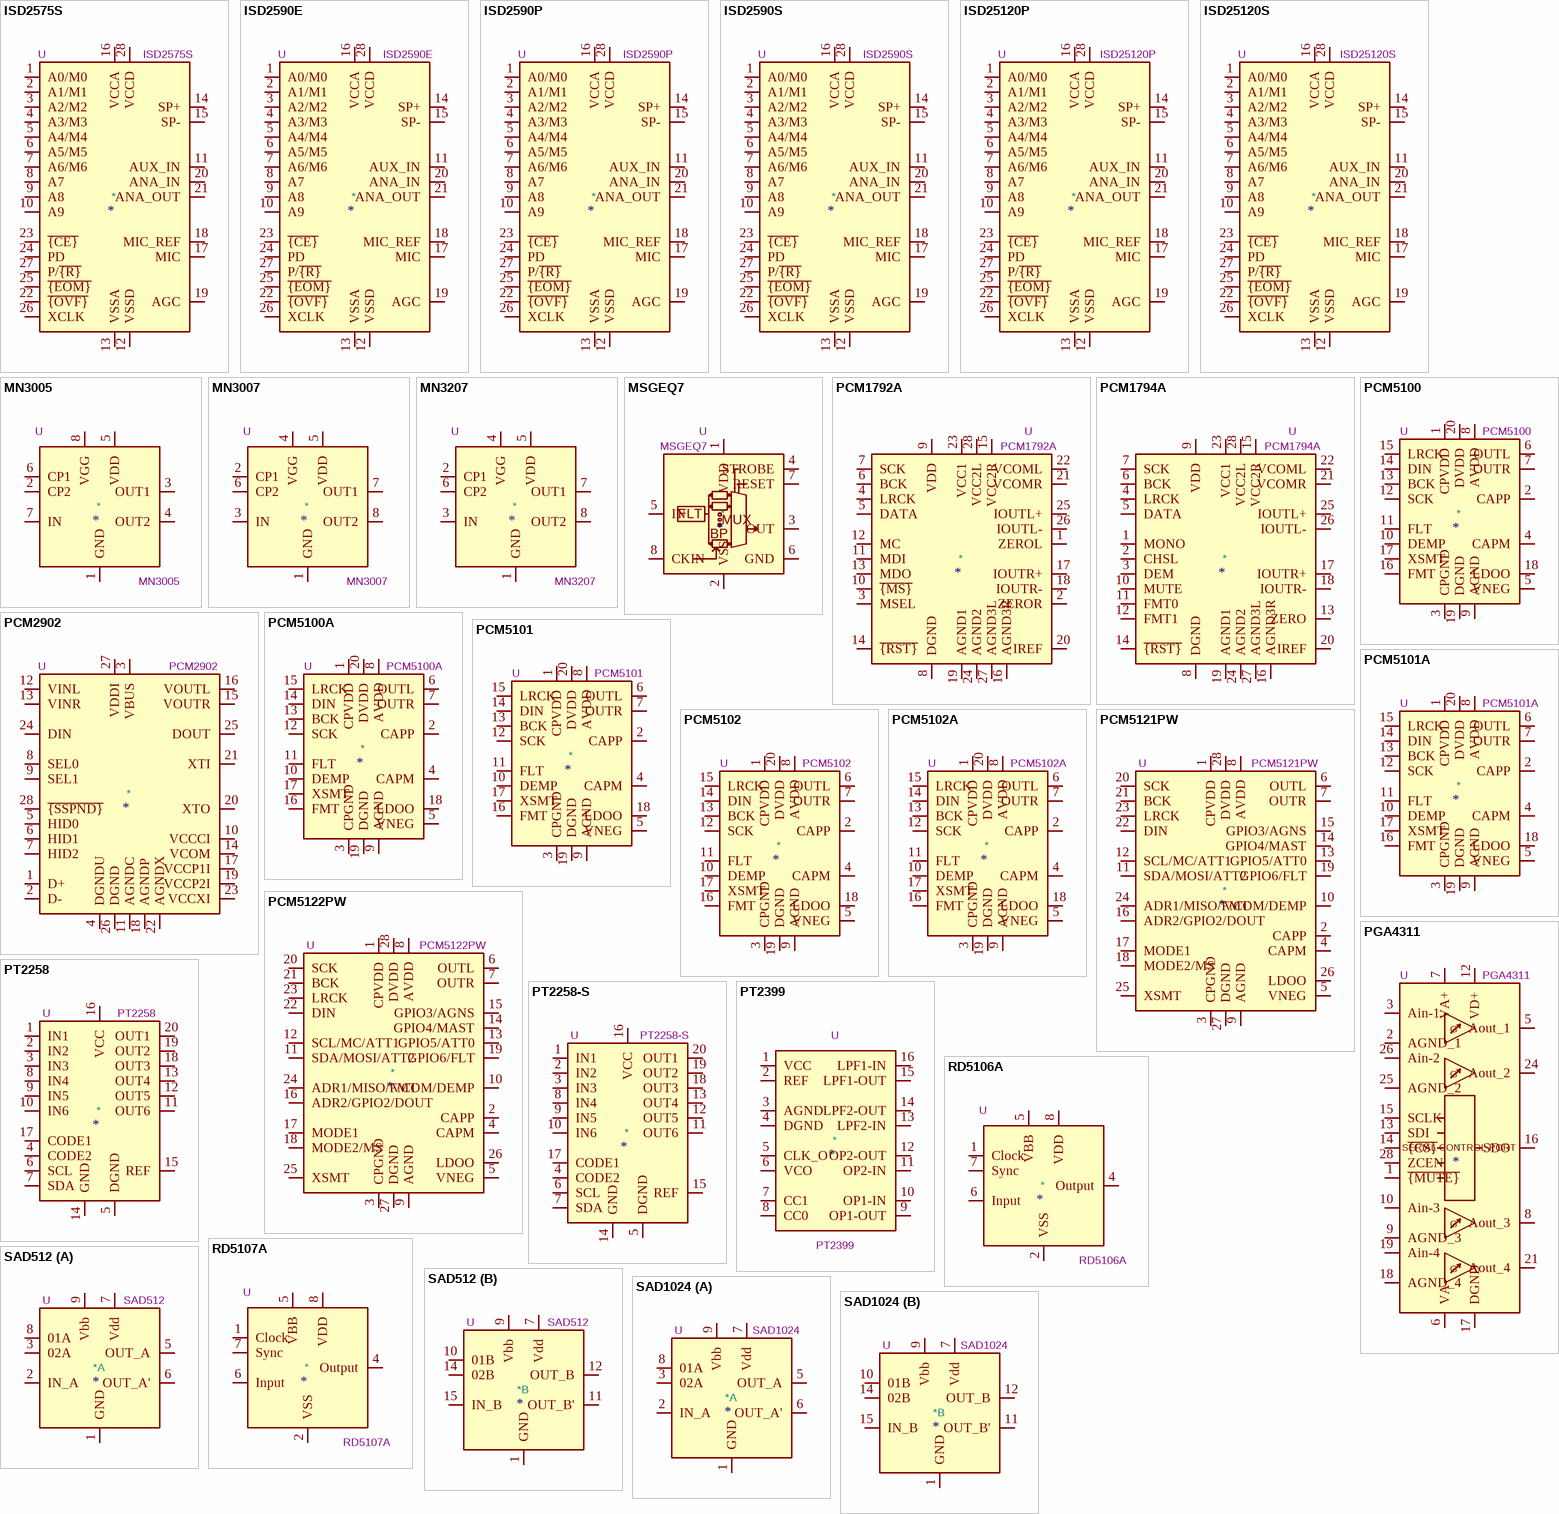
[diagram p2: symbols ISD2575S to SAD1024]

## ISD2575S
designator *  value ISD2575S  Reference: U
ki_keywords: isd2575; ki_description: Single-Chip Voice Record/Playback Device 75-Second Duration, SOIC-28; ki_fp_filters: SOIC*7.5x17.9mm*P1.27mm*; Footprint: Package_SO:SOIC-28W_7.5x17.9mm_P1.27mm; Datasheet: https://datasheetspdf.com/pdf-file/700027/Winbond/ISD2560/1
pins: 1 A0/M0, 2 A1/M1, 3 A2/M2, 4 A3/M3, 5 A4/M4, 6 A5/M5, 7 A6/M6, 8 A7, 9 A8, 10 A9, 11 AUX_IN, 12 VSSD, 13 VSSA, 14 SP+, 15 SP-, 16 VCCA, 17 MIC, 18 MIC_REF, 19 AGC, 20 ANA_IN, 21 ANA_OUT, 22 ~{{OVF}}, 23 ~{{CE}}, 24 PD, 25 ~{{EOM}}, 26 XCLK, 27 P/~{{R}}, 28 VCCD

## ISD2590E
designator *  value ISD2590E  Reference: U
ki_keywords: isd2590; ki_description: Single-Chip Voice Record/Playback Device 90-Second Duration, TSOP-I-28; ki_fp_filters: TSOP*11.8x8mm*P0.55mm*; Footprint: Package_SO:TSOP-I-28_11.8x8mm_P0.55mm; Datasheet: https://datasheetspdf.com/pdf-file/700027/Winbond/ISD2560/1
pins: 1 A0/M0, 2 A1/M1, 3 A2/M2, 4 A3/M3, 5 A4/M4, 6 A5/M5, 7 A6/M6, 8 A7, 9 A8, 10 A9, 11 AUX_IN, 12 VSSD, 13 VSSA, 14 SP+, 15 SP-, 16 VCCA, 17 MIC, 18 MIC_REF, 19 AGC, 20 ANA_IN, 21 ANA_OUT, 22 ~{{OVF}}, 23 ~{{CE}}, 24 PD, 25 ~{{EOM}}, 26 XCLK, 27 P/~{{R}}, 28 VCCD

## ISD2590P
designator *  value ISD2590P  Reference: U
ki_keywords: isd2590; ki_description: Single-Chip Voice Record/Playback Device 90-Second Duration, DIP-28; ki_fp_filters: DIP*W15.24mm*; Footprint: Package_DIP:DIP-28_W15.24mm; Datasheet: https://datasheetspdf.com/pdf-file/700027/Winbond/ISD2560/1
pins: 1 A0/M0, 2 A1/M1, 3 A2/M2, 4 A3/M3, 5 A4/M4, 6 A5/M5, 7 A6/M6, 8 A7, 9 A8, 10 A9, 11 AUX_IN, 12 VSSD, 13 VSSA, 14 SP+, 15 SP-, 16 VCCA, 17 MIC, 18 MIC_REF, 19 AGC, 20 ANA_IN, 21 ANA_OUT, 22 ~{{OVF}}, 23 ~{{CE}}, 24 PD, 25 ~{{EOM}}, 26 XCLK, 27 P/~{{R}}, 28 VCCD

## ISD2590S
designator *  value ISD2590S  Reference: U
ki_keywords: isd2590; ki_description: Single-Chip Voice Record/Playback Device 90-Second Duration, SOIC-28; ki_fp_filters: SOIC*7.5x17.9mm*P1.27mm*; Footprint: Package_SO:SOIC-28W_7.5x17.9mm_P1.27mm; Datasheet: https://datasheetspdf.com/pdf-file/700027/Winbond/ISD2560/1
pins: 1 A0/M0, 2 A1/M1, 3 A2/M2, 4 A3/M3, 5 A4/M4, 6 A5/M5, 7 A6/M6, 8 A7, 9 A8, 10 A9, 11 AUX_IN, 12 VSSD, 13 VSSA, 14 SP+, 15 SP-, 16 VCCA, 17 MIC, 18 MIC_REF, 19 AGC, 20 ANA_IN, 21 ANA_OUT, 22 ~{{OVF}}, 23 ~{{CE}}, 24 PD, 25 ~{{EOM}}, 26 XCLK, 27 P/~{{R}}, 28 VCCD

## ISD25120P
designator *  value ISD25120P  Reference: U
ki_keywords: isd25120; ki_description: Single-Chip Voice Record/Playback Device 120-Second Duration, DIP-28; ki_fp_filters: DIP*W15.24mm*; Footprint: Package_DIP:DIP-28_W15.24mm; Datasheet: https://datasheetspdf.com/pdf-file/700027/Winbond/ISD2560/1
pins: 1 A0/M0, 2 A1/M1, 3 A2/M2, 4 A3/M3, 5 A4/M4, 6 A5/M5, 7 A6/M6, 8 A7, 9 A8, 10 A9, 11 AUX_IN, 12 VSSD, 13 VSSA, 14 SP+, 15 SP-, 16 VCCA, 17 MIC, 18 MIC_REF, 19 AGC, 20 ANA_IN, 21 ANA_OUT, 22 ~{{OVF}}, 23 ~{{CE}}, 24 PD, 25 ~{{EOM}}, 26 XCLK, 27 P/~{{R}}, 28 VCCD

## ISD25120S
designator *  value ISD25120S  Reference: U
ki_keywords: isd25120; ki_description: Single-Chip Voice Record/Playback Device 120-Second Duration, SOIC-28; ki_fp_filters: SOIC*7.5x17.9mm*P1.27mm*; Footprint: Package_SO:SOIC-28W_7.5x17.9mm_P1.27mm; Datasheet: https://datasheetspdf.com/pdf-file/700027/Winbond/ISD2560/1
pins: 1 A0/M0, 2 A1/M1, 3 A2/M2, 4 A3/M3, 5 A4/M4, 6 A5/M5, 7 A6/M6, 8 A7, 9 A8, 10 A9, 11 AUX_IN, 12 VSSD, 13 VSSA, 14 SP+, 15 SP-, 16 VCCA, 17 MIC, 18 MIC_REF, 19 AGC, 20 ANA_IN, 21 ANA_OUT, 22 ~{{OVF}}, 23 ~{{CE}}, 24 PD, 25 ~{{EOM}}, 26 XCLK, 27 P/~{{R}}, 28 VCCD

## MN3005
designator *  value MN3005  Reference: U
ki_keywords: Matsushita Panasonic BBD; ki_description: 4096-STAGE LONG DELAY BBD (bucket brigade device), delay time 20.48ms to 204.8ms, S/N 75dB, clock frequency range 10KHz to 100KHz; ki_fp_filters: DIP-8*; Datasheet: http://www.experimentalistsanonymous.com/diy/Datasheets/MN3005.pdf
pins: 1 GND, 2 CP2, 3 OUT1, 4 OUT2, 5 VDD, 6 CP1, 7 IN, 8 VGG

## MN3007
designator *  value MN3007  Reference: U
ki_keywords: Matsushita Panasonic BBD; ki_description: 1024-STAGE LOW NOISE BBD (bucket brigade device), delay time 5.12ms to 51.2ms, S/N 80dB, clock frequency range 10KHz to 100KHz; ki_fp_filters: DIP-8*; Datasheet: http://www.experimentalistsanonymous.com/diy/Datasheets/MN3007.pdf
pins: 1 GND, 2 CP1, 3 IN, 4 VGG, 5 VDD, 6 CP2, 7 OUT1, 8 OUT2

## MN3207
designator *  value MN3207  Reference: U
ki_keywords: Matsushita Panasonic BBD; ki_description: 1024-STAGE LOW VOLTAGE OPERATION LOW NOISE BBD (bucket brigade device), delay time 2.56ms to 51.2ms, S/N 73dB, clock frequency range 10KHz to 200KHz; ki_fp_filters: DIP-8*; Datasheet: http://www.experimentalistsanonymous.com/diy/Datasheets/MN3207.pdf
pins: 1 GND, 2 CP1, 3 IN, 4 VGG, 5 VDD, 6 CP2, 7 OUT1, 8 OUT2

## MSGEQ7
designator *  value MSGEQ7  Reference: U
ki_keywords: equalizer filter; ki_description: Seven Band Graphic Equalizer, DIP-8/SOIC-8; ki_fp_filters: SOIC*3.9x4.9mm*P1.27mm* DIP*W7.62mm*; Datasheet: http://mix-sig.com/images/datasheets/MSGEQ7.pdf
pins: 1 VDD, 2 VSS, 3 OUT, 4 STROBE, 5 IN, 6 GND, 7 RESET, 8 CKIN
text: FLT; MUX; BP

## PCM1792A
designator *  value PCM1792A  Reference: U
ki_keywords: audio dac 2ch 24bit 192kHz; ki_description: 24-Bit, 192-kHz Sampling, Advanced Segment, Audio Stereo Digital-to-Analog Converter, SW Control, SSOP-28; ki_fp_filters: SSOP*5.3x10.2mm*P0.65mm*; Footprint: Package_SO:SSOP-28_5.3x10.2mm_P0.65mm; Datasheet: http://www.ti.com/lit/ds/symlink/pcm1792a.pdf
pins: 1 ZEROL, 2 ZEROR, 3 MSEL, 4 LRCK, 5 DATA, 6 BCK, 7 SCK, 8 DGND, 9 VDD, 10 ~{{MS}}, 11 MDI, 12 MC, 13 MDO, 14 ~{{RST}}, 15 VCC2R, 16 AGND3R, 17 IOUTR+, 18 IOUTR-, 19 AGND1, 20 IREF, 21 VCOMR, 22 VCOML, 23 VCC1, 24 AGND2, 25 IOUTL+, 26 IOUTL-, 27 AGND3L, 28 VCC2L

## PCM1794A
designator *  value PCM1794A  Reference: U
ki_keywords: audio dac 2ch 24bit 192kHz; ki_description: 24-Bit, 192-kHz Sampling, Advanced Segment, Audio Stereo Digital-to-Analog Converter, HW Control, SSOP-28; ki_fp_filters: SSOP*5.3x10.2mm*P0.65mm*; Footprint: Package_SO:SSOP-28_5.3x10.2mm_P0.65mm; Datasheet: http://www.ti.com/lit/ds/symlink/pcm1794a.pdf
pins: 1 MONO, 2 CHSL, 3 DEM, 4 LRCK, 5 DATA, 6 BCK, 7 SCK, 8 DGND, 9 VDD, 10 MUTE, 11 FMT0, 12 FMT1, 13 ZERO, 14 ~{{RST}}, 15 VCC2R, 16 AGND3R, 17 IOUTR+, 18 IOUTR-, 19 AGND1, 20 IREF, 21 VCOMR, 22 VCOML, 23 VCC1, 24 AGND2, 25 IOUTL+, 26 IOUTL-, 27 AGND3L, 28 VCC2L

## PCM2902
designator *  value PCM2902  Reference: U
ki_keywords: pcm2902 usb audio; ki_description: Stereo Audio Codec with USB interface, Analog Input/Output, and S/PDIF, SSOP-28; ki_fp_filters: SSOP*5.3x10.2mm*P0.65mm*; Footprint: Package_SO:SSOP-28_5.3x10.2mm_P0.65mm; Datasheet: http://www.ti.com/lit/ds/symlink/pcm2902c.pdf
pins: 1 D+, 2 D-, 3 VBUS, 4 DGNDU, 5 HID0, 6 HID1, 7 HID2, 8 SEL0, 9 SEL1, 10 VCCCI, 11 AGNDC, 12 VINL, 13 VINR, 14 VCOM, 15 VOUTR, 16 VOUTL, 17 VCCP1I, 18 AGNDP, 19 VCCP2I, 20 XTO, 21 XTI, 22 AGNDX, 23 VCCXI, 24 DIN, 25 DOUT, 26 DGND, 27 VDDI, 28 ~{{SSPND}}

## PCM5100
designator *  value PCM5100  Reference: U
ki_keywords: audio dac 2ch 32bit 384kHz; ki_description: 2VRMS DirectPath, 100dB Audio Stereo DAC with 32-bit, 384kHz PCM Interface, TSSOP-20; ki_fp_filters: TSSOP*4.4x6.5mm*P0.65mm*; Footprint: Package_SO:TSSOP-20_4.4x6.5mm_P0.65mm; Datasheet: http://www.ti.com/lit/ds/symlink/pcm5100.pdf
pins: 1 CPVDD, 2 CAPP, 3 CPGND, 4 CAPM, 5 VNEG, 6 OUTL, 7 OUTR, 8 AVDD, 9 AGND, 10 DEMP, 11 FLT, 12 SCK, 13 BCK, 14 DIN, 15 LRCK, 16 FMT, 17 XSMT, 18 LDOO, 19 DGND, 20 DVDD

## PCM5100A
designator *  value PCM5100A  Reference: U
ki_keywords: audio dac 2ch 32bit 384kHz; ki_description: 2.1 VRMS, 100dB Audio Stereo DAC with PLL and 32-bit, 384kHz PCM Interface, TSSOP-20; ki_fp_filters: TSSOP*4.4x6.5mm*P0.65mm*; Footprint: Package_SO:TSSOP-20_4.4x6.5mm_P0.65mm; Datasheet: https://www.ti.com/lit/ds/symlink/pcm5100a.pdf
pins: 1 CPVDD, 2 CAPP, 3 CPGND, 4 CAPM, 5 VNEG, 6 OUTL, 7 OUTR, 8 AVDD, 9 AGND, 10 DEMP, 11 FLT, 12 SCK, 13 BCK, 14 DIN, 15 LRCK, 16 FMT, 17 XSMT, 18 LDOO, 19 DGND, 20 DVDD

## PCM5101
designator *  value PCM5101  Reference: U
ki_keywords: audio dac 2ch 32bit 384kHz; ki_description: 2VRMS DirectPath, 106dB Audio Stereo DAC with 32-bit, 384kHz PCM Interface, TSSOP-20; ki_fp_filters: TSSOP*4.4x6.5mm*P0.65mm*; Footprint: Package_SO:TSSOP-20_4.4x6.5mm_P0.65mm; Datasheet: http://www.ti.com/lit/ds/symlink/pcm5101.pdf
pins: 1 CPVDD, 2 CAPP, 3 CPGND, 4 CAPM, 5 VNEG, 6 OUTL, 7 OUTR, 8 AVDD, 9 AGND, 10 DEMP, 11 FLT, 12 SCK, 13 BCK, 14 DIN, 15 LRCK, 16 FMT, 17 XSMT, 18 LDOO, 19 DGND, 20 DVDD

## PCM5101A
designator *  value PCM5101A  Reference: U
ki_keywords: audio dac 2ch 32bit 384kHz; ki_description: 2.1 VRMS, 106dB Audio Stereo DAC with PLL and 32-bit, 384kHz PCM Interface, TSSOP-20; ki_fp_filters: TSSOP*4.4x6.5mm*P0.65mm*; Footprint: Package_SO:TSSOP-20_4.4x6.5mm_P0.65mm; Datasheet: https://www.ti.com/lit/ds/symlink/pcm5101a.pdf
pins: 1 CPVDD, 2 CAPP, 3 CPGND, 4 CAPM, 5 VNEG, 6 OUTL, 7 OUTR, 8 AVDD, 9 AGND, 10 DEMP, 11 FLT, 12 SCK, 13 BCK, 14 DIN, 15 LRCK, 16 FMT, 17 XSMT, 18 LDOO, 19 DGND, 20 DVDD

## PCM5102
designator *  value PCM5102  Reference: U
ki_keywords: audio dac 2ch 32bit 384kHz; ki_description: 2VRMS DirectPath, 112dB Audio Stereo DAC with 32-bit, 384kHz PCM Interface, TSSOP-20; ki_fp_filters: TSSOP*4.4x6.5mm*P0.65mm*; Footprint: Package_SO:TSSOP-20_4.4x6.5mm_P0.65mm; Datasheet: http://www.ti.com/lit/ds/symlink/pcm5102.pdf
pins: 1 CPVDD, 2 CAPP, 3 CPGND, 4 CAPM, 5 VNEG, 6 OUTL, 7 OUTR, 8 AVDD, 9 AGND, 10 DEMP, 11 FLT, 12 SCK, 13 BCK, 14 DIN, 15 LRCK, 16 FMT, 17 XSMT, 18 LDOO, 19 DGND, 20 DVDD

## PCM5102A
designator *  value PCM5102A  Reference: U
ki_keywords: audio dac 2ch 32bit 384kHz; ki_description: 2.1 VRMS, 112dB Audio Stereo DAC with PLL and 32-bit, 384kHz PCM Interface, TSSOP-20; ki_fp_filters: TSSOP*4.4x6.5mm*P0.65mm*; Footprint: Package_SO:TSSOP-20_4.4x6.5mm_P0.65mm; Datasheet: https://www.ti.com/lit/ds/symlink/pcm5102a.pdf
pins: 1 CPVDD, 2 CAPP, 3 CPGND, 4 CAPM, 5 VNEG, 6 OUTL, 7 OUTR, 8 AVDD, 9 AGND, 10 DEMP, 11 FLT, 12 SCK, 13 BCK, 14 DIN, 15 LRCK, 16 FMT, 17 XSMT, 18 LDOO, 19 DGND, 20 DVDD

## PCM5121PW
designator *  value PCM5121PW  Reference: U
ki_keywords: audio dac 2ch 32bit 384kHz; ki_description: 2VRMS DirectPath, 106dB Audio Stereo DAC with 32-bit, 384kHz PCM Interface, TSSOP-28; ki_fp_filters: TSSOP*4.4x9.7mm*P0.65mm*; Footprint: Package_SO:TSSOP-28_4.4x9.7mm_P0.65mm; Datasheet: http://www.ti.com/lit/ds/symlink/pcm5121.pdf
pins: 1 CPVDD, 2 CAPP, 3 CPGND, 4 CAPM, 5 VNEG, 6 OUTL, 7 OUTR, 8 AVDD, 9 AGND, 10 VCOM/DEMP, 11 SDA/MOSI/ATT2, 12 SCL/MC/ATT1, 13 GPIO5/ATT0, 14 GPIO4/MAST, 15 GPIO3/AGNS, 16 ADR2/GPIO2/DOUT, 17 MODE1, 18 MODE2/MS, 19 GPIO6/FLT, 20 SCK, 21 BCK, 22 DIN, 23 LRCK, 24 ADR1/MISO/FMT, 25 XSMT, 26 LDOO, 27 DGND, 28 DVDD

## PCM5122PW
designator *  value PCM5122PW  Reference: U
ki_keywords: audio dac 2ch 32bit 384kHz; ki_description: 2VRMS DirectPath, 112dB Audio Stereo DAC with 32-bit, 384kHz PCM Interface, TSSOP-28; ki_fp_filters: TSSOP*4.4x9.7mm*P0.65mm*; Footprint: Package_SO:TSSOP-28_4.4x9.7mm_P0.65mm; Datasheet: http://www.ti.com/lit/ds/symlink/pcm5122.pdf
pins: 1 CPVDD, 2 CAPP, 3 CPGND, 4 CAPM, 5 VNEG, 6 OUTL, 7 OUTR, 8 AVDD, 9 AGND, 10 VCOM/DEMP, 11 SDA/MOSI/ATT2, 12 SCL/MC/ATT1, 13 GPIO5/ATT0, 14 GPIO4/MAST, 15 GPIO3/AGNS, 16 ADR2/GPIO2/DOUT, 17 MODE1, 18 MODE2/MS, 19 GPIO6/FLT, 20 SCK, 21 BCK, 22 DIN, 23 LRCK, 24 ADR1/MISO/FMT, 25 XSMT, 26 LDOO, 27 DGND, 28 DVDD

## PGA4311
designator *  value PGA4311  Reference: U
ki_keywords: audio volume control 4ch spi; ki_description: 4-Channel Audio Volume Control, SPI Interface, +31.5dB to -95.5dB, SOIC-28W; ki_fp_filters: SOIC*7.5x17.9mm*P1.27mm*; Footprint: Package_SO:SOIC-28W_7.5x17.9mm_P1.27mm; Datasheet: http://www.ti.com/lit/ds/symlink/pga4311.pdf
pins: 1 ~{{MUTE}}, 2 AGND_1, 3 Ain-1, 4 AGND_1 hidden, 5 Aout_1, 6 VA-, 7 VA+, 8 Aout_3, 9 AGND_3, 10 Ain-3, 11 AGND_3 hidden, 12 VD+, 13 SDI, 14 ~{{CS}}, 15 SCLK, 16 SDO, 17 DGND, 18 AGND_4, 19 Ain-4, 20 AGND_4 hidden, 21 Aout_4, 22 VA+ hidden, 23 VA- hidden, 24 Aout_2, 25 AGND_2, 26 Ain-2, 27 AGND_2 hidden, 28 ZCEN
text: G; SERIAL CONTROL PORT

## PT2258
designator *  value PT2258  Reference: U
ki_keywords: Volume; ki_description: 6-Channel Electronic Volume Controller, DIP-20; ki_fp_filters: DIP*W7.62mm*; Footprint: Package_DIP:DIP-20_W7.62mm; Datasheet: http://www.princeton.com.tw/Portals/0/Product/PT2258-s.pdf
pins: 1 IN1, 2 IN2, 3 IN3, 4 CODE2, 5 DGND, 6 SCL, 7 SDA, 8 IN4, 9 IN5, 10 IN6, 11 OUT6, 12 OUT5, 13 OUT4, 14 GND, 15 REF, 16 VCC, 17 CODE1, 18 OUT3, 19 OUT2, 20 OUT1

## PT2258-S
designator *  value PT2258-S  Reference: U
ki_keywords: Volume; ki_description: 6-Channel Electronic Volume Controller, SOP-20; ki_fp_filters: SO*12.8x7.5mm*P1.27mm*; Footprint: Package_SO:SO-20_12.8x7.5mm_P1.27mm; Datasheet: http://www.princeton.com.tw/Portals/0/Product/PT2258-s.pdf
pins: 1 IN1, 2 IN2, 3 IN3, 4 CODE2, 5 DGND, 6 SCL, 7 SDA, 8 IN4, 9 IN5, 10 IN6, 11 OUT6, 12 OUT5, 13 OUT4, 14 GND, 15 REF, 16 VCC, 17 CODE1, 18 OUT3, 19 OUT2, 20 OUT1

## PT2399
designator *  value PT2399  Reference: U
ki_keywords: CMOS ADC DAC 44K Digital processing VCO; ki_description: Echo Processor IC, DIP-16; ki_fp_filters: DIP*W7.62mm*; Footprint: Package_DIP:DIP-16_W7.62mm; Datasheet: http://www.princeton.com.tw/Portals/0/Product/PT2399_1.pdf
pins: 1 VCC, 2 REF, 3 AGND, 4 DGND, 5 CLK_O, 6 VCO, 7 CC1, 8 CC0, 9 OP1-OUT, 10 OP1-IN, 11 OP2-IN, 12 OP2-OUT, 13 LPF2-IN, 14 LPF2-OUT, 15 LPF1-OUT, 16 LPF1-IN

## RD5106A
designator *  value RD5106A  Reference: U
ki_keywords: EG&G RETICON BBD N-channel silicon-gate; ki_description: Analog Delay Line 256 sample bucket brigade device, 512usec to more than 1second, input signal frequency range 0 to 170KHz, clock frequency range 500Hz to 1MHz; ki_fp_filters: DIP-8*; Datasheet: http://pdf.datasheetarchive.com/indexerfiles/Scans-091/DSAHI00048836.pdf
pins: 1 Clock, 2 VSS, 3 NC hidden, 4 Output, 5 VBB, 6 Input, 7 Sync, 8 VDD

## RD5107A
designator *  value RD5107A  Reference: U
ki_keywords: EG&G RETICON BBD N-channel silicon-gate; ki_description: Analog Delay Line 512 sample bucket brigade device, 1msec to more than 2seconds, input signal frequency range 0 to 170KHz, clock frequency range 500Hz to 1MHz; ki_fp_filters: DIP-8*; Datasheet: http://pdf.datasheetarchive.com/indexerfiles/Scans-091/DSAHI00048836.pdf
pins: 1 Clock, 2 VSS, 3 NC hidden, 4 Output, 5 VBB, 6 Input, 7 Sync, 8 VDD

## SAD512
designator *  value SAD512  Reference: U
ki_keywords: EG&G RETICON BBD N-channel silicon-gate; ki_description: SAD-512 ANALOG DELAY LINE, bucket brigade device, 512 stages, signal frequency range 0 to 200KHz, clock frequency range 1.5KHz to 1.5MHz; ki_fp_filters: DIP-16*; Datasheet: http://thmq.mysteria.cz/em1022/SAD1024.pdf
part A pins: 1 GND, 2 IN_A, 3 02A, 4 NC hidden, 5 OUT_A, 6 OUT_A', 7 Vdd, 8 01A, 9 Vbb, 13 NC hidden, 16 NC hidden
part B pins: 1 GND, 4 NC hidden, 7 Vdd, 9 Vbb, 10 01B, 11 OUT_B', 12 OUT_B, 13 NC hidden, 14 02B, 15 IN_B, 16 NC hidden

## SAD1024
designator *  value SAD1024  Reference: U
ki_keywords: EG&G RETICON BBD N-channel silicon-gate; ki_description: SAD-1024 DUAL ANALOG DELAY LINE, bucket brigade device, 2 independent 512 stages, signal frequency range 0 to 200KHz, clock frequency range 1.5KHz to 1.5MHz; ki_fp_filters: DIP-16*; Datasheet: http://thmq.mysteria.cz/em1022/SAD1024.pdf
part A pins: 1 GND, 2 IN_A, 3 02A, 4 NC hidden, 5 OUT_A, 6 OUT_A', 7 Vdd, 8 01A, 9 Vbb, 13 NC hidden, 16 NC hidden
part B pins: 1 GND, 4 NC hidden, 7 Vdd, 9 Vbb, 10 01B, 11 OUT_B', 12 OUT_B, 13 NC hidden, 14 02B, 15 IN_B, 16 NC hidden

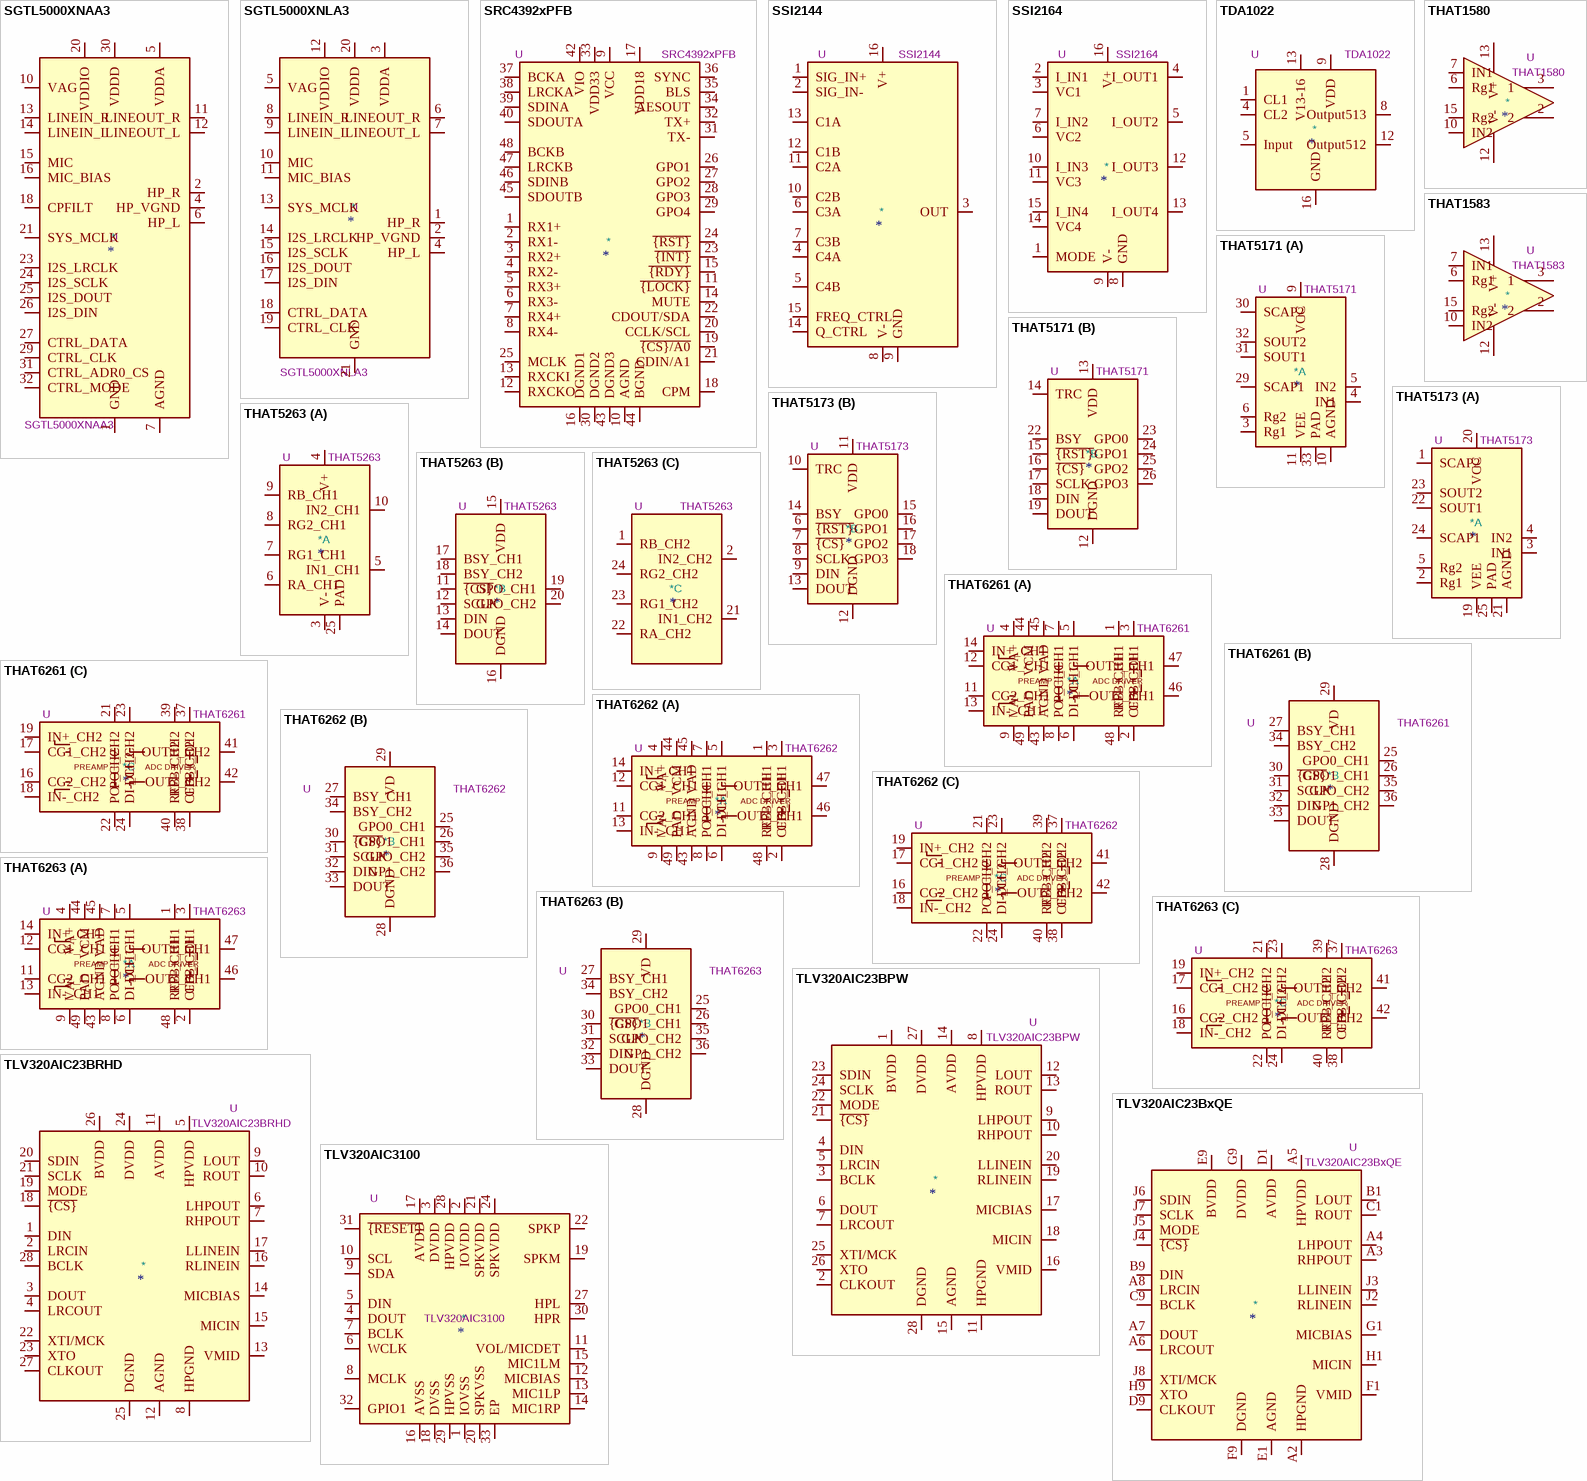
[diagram p3: symbols SGTL5000XNAA3 to TLV320AIC3100]

## SGTL5000XNAA3
designator *  value SGTL5000XNAA3  Reference: U
ki_keywords: Codec; ki_description: Low Power Stereo Codec with Headphone Amp, QFN-32; ki_fp_filters: QFN*1EP*5x5mm*P0.5mm*; Footprint: Package_DFN_QFN:QFN-32-1EP_5x5mm_P0.5mm_EP3.6x3.6mm; Datasheet: https://www.nxp.com/docs/en/data-sheet/SGTL5000.pdf
pins: 1 GND, 2 HP_R, 3 GND hidden, 4 HP_VGND, 5 VDDA, 6 HP_L, 7 AGND, 8 NC hidden, 9 NC hidden, 10 VAG, 11 LINEOUT_R, 12 LINEOUT_L, 13 LINEIN_R, 14 LINEIN_L, 15 MIC, 16 MIC_BIAS, 17 NC hidden, 18 CPFILT, 19 NC hidden, 20 VDDIO, 21 SYS_MCLK, 22 NC hidden, 23 I2S_LRCLK, 24 I2S_SCLK, 25 I2S_DOUT, 26 I2S_DIN, 27 CTRL_DATA, 28 NC hidden, 29 CTRL_CLK, 30 VDDD, 31 CTRL_ADR0_CS, 32 CTRL_MODE, 33 GND hidden

## SGTL5000XNLA3
designator *  value SGTL5000XNLA3  Reference: U
ki_keywords: Codec; ki_description: Low Power Stereo Codec with Headphone Amp, QFN-20; ki_fp_filters: QFN*1EP*3x3mm*P0.4mm*; Footprint: Package_DFN_QFN:QFN-20-1EP_3x3mm_P0.4mm_EP1.65x1.65mm; Datasheet: https://www.nxp.com/docs/en/data-sheet/SGTL5000.pdf
pins: 1 HP_R, 2 HP_VGND, 3 VDDA, 4 HP_L, 5 VAG, 6 LINEOUT_R, 7 LINEOUT_L, 8 LINEIN_R, 9 LINEIN_L, 10 MIC, 11 MIC_BIAS, 12 VDDIO, 13 SYS_MCLK, 14 I2S_LRCLK, 15 I2S_SCLK, 16 I2S_DOUT, 17 I2S_DIN, 18 CTRL_DATA, 19 CTRL_CLK, 20 VDDD, 21 GND

## SRC4392xPFB
designator *  value SRC4392xPFB  Reference: U
ki_keywords: audio sample rate converter; ki_description: Two-Channel, Asynchronous Sample Rate Converter with Integrated Digital Audio Interface Receiver and Transmitter, TQFP-48; ki_fp_filters: TQFP*7x7mm*P0.5mm*; Footprint: Package_QFP:TQFP-48_7x7mm_P0.5mm; Datasheet: http://www.ti.com/lit/ds/symlink/src4392.pdf
pins: 1 RX1+, 2 RX1-, 3 RX2+, 4 RX2-, 5 RX3+, 6 RX3-, 7 RX4+, 8 RX4-, 9 VCC, 10 AGND, 11 ~{{LOCK}}, 12 RXCKO, 13 RXCKI, 14 MUTE, 15 ~{{RDY}}, 16 DGND1, 17 VDD18, 18 CPM, 19 ~{{CS}/A0}, 20 CCLK/SCL, 21 CDIN/A1, 22 CDOUT/SDA, 23 ~{{INT}}, 24 ~{{RST}}, 25 MCLK, 26 GPO1, 27 GPO2, 28 GPO3, 29 GPO4, 30 DGND2, 31 TX-, 32 TX+, 33 VDD33, 34 AESOUT, 35 BLS, 36 SYNC, 37 BCKA, 38 LRCKA, 39 SDINA, 40 SDOUTA, 41 NC hidden, 42 VIO, 43 DGND3, 44 BGND, 45 SDOUTB, 46 SDINB, 47 LRCKB, 48 BCKB

## SSI2144
designator *  value SSI2144  Reference: U
ki_keywords: Sound Semiconductor VCF SSM2044; ki_description: Four-pole VCF, SSOP-16; ki_fp_filters: SSOP*3.9x4.9mm*P0.635mm*; Footprint: Package_SO:SSOP-16_3.9x4.9mm_P0.635mm; Datasheet: http://www.soundsemiconductor.com/downloads/ssi2144datasheet.pdf
pins: 1 SIG_IN+, 2 SIG_IN-, 3 OUT, 4 C4A, 5 C4B, 6 C3A, 7 C3B, 8 V-, 9 GND, 10 C2B, 11 C2A, 12 C1B, 13 C1A, 14 Q_CTRL, 15 FREQ_CTRL, 16 V+

## SSI2164
designator *  value SSI2164  Reference: U
ki_keywords: Sound Semiconductor VCA SSM2164; ki_description: Quad VCA, SOIC-16; ki_fp_filters: SOIC*3.9x9.9mm*P1.27mm*; Footprint: Package_SO:SOIC-16_3.9x9.9mm_P1.27mm; Datasheet: http://www.soundsemiconductor.com/downloads/ssi2164datasheet.pdf
pins: 1 MODE, 2 I_IN1, 3 VC1, 4 I_OUT1, 5 I_OUT2, 6 VC2, 7 I_IN2, 8 GND, 9 V-, 10 I_IN3, 11 VC3, 12 I_OUT3, 13 I_OUT4, 14 VC4, 15 I_IN4, 16 V+

## TDA1022
designator *  value TDA1022  Reference: U
ki_keywords: PHILIPS BBD MOS monolithic delay analogue; ki_description: BUCKET BRIGADE DELAY LINE FOR ANALOGUE SIGNALS, 512 stages, delay time 0.512ms to 51.2ms, signal frequency range 0 to 45KHz, clock frequency range 5KHz to 500KHz, DIP-16; ki_fp_filters: DIP*W7.62mm*; Footprint: Package_DIP:DIP-16_W7.62mm; Datasheet: http://thmq.mysteria.cz/em1022/TDA1022.pdf
pins: 1 CL1, 2 NC hidden, 3 NC hidden, 4 CL2, 5 Input, 6 NC hidden, 7 NC hidden, 8 Output513, 9 VDD, 10 NC hidden, 11 NC hidden, 12 Output512, 13 V13-16, 14 NC hidden, 15 NC hidden, 16 GND

## THAT1580
designator *  value THAT1580  Reference: U
ki_keywords: diff amp mic preamp; ki_description: Low-Noise, Differential Audio Preamplifier IC, 0.005% THD+N, -134.8dBu EIN, QFN-16; ki_fp_filters: QFN*1EP*4x4mm*P0.65mm*; Footprint: Package_DFN_QFN:QFN-16-1EP_4x4mm_P0.65mm_EP2.1x2.1mm_ThermalVias; Datasheet: http://www.thatcorp.com/datashts/THAT_1580_Datasheet.pdf
pins: 2, 3 1, 6 Rg1, 7 IN1, 10 IN2, 12 V-, 13 V+, 15 Rg2, 17 V- hidden

## THAT1583
designator *  value THAT1583  Reference: U
ki_keywords: diff amp mic preamp; ki_description: Low-Noise, Differential Audio Preamplifier IC, 0.006% THD+N, -128.9dBu EIN, QFN-16; ki_fp_filters: QFN*1EP*4x4mm*P0.65mm*; Footprint: Package_DFN_QFN:QFN-16-1EP_4x4mm_P0.65mm_EP2.1x2.1mm_ThermalVias; Datasheet: http://www.thatcorp.com/datashts/THAT_1583_Datasheet.pdf
pins: 2, 3 1, 6 Rg1, 7 IN1, 10 IN2, 12 V-, 13 V+, 15 Rg2, 17 V- hidden

## THAT5171
designator *  value THAT5171  Reference: U
ki_keywords: mic preamp gain controller; ki_description: High-Performance Digital Preamplifier Controller IC, QFN-32; ki_fp_filters: QFN*1EP*7x7mm*P0.65mm*; Footprint: Package_DFN_QFN:QFN-32-1EP_7x7mm_P0.65mm_EP5.4x5.4mm; Datasheet: http://www.thatcorp.com/datashts/THAT_5171_Datasheet.pdf
part A pins: 1 NC hidden, 2 NC hidden, 3 Rg1, 4 IN1, 5 IN2, 6 Rg2, 7 NC hidden, 8 NC hidden, 9 VCC, 10 AGND, 11 VEE, 27 NC hidden, 28 AGND hidden, 29 SCAP1, 30 SCAP2, 31 SOUT1, 32 SOUT2, 33 PAD
part B pins: 12 DGND, 13 VDD, 14 TRC, 15 ~{{RST}}, 16 ~{{CS}}, 17 SCLK, 18 DIN, 19 DOUT, 20 DGND hidden, 21 VDD hidden, 22 BSY, 23 GPO0, 24 GPO1, 25 GPO2, 26 GPO3

## THAT5173
designator *  value THAT5173  Reference: U
ki_keywords: mic preamp gain controller; ki_description: Audio Preamplifier Digital Controller IC, QFN-24; ki_fp_filters: QFN*1EP*5x5mm*P0.65mm*; Footprint: Package_DFN_QFN:QFN-24-1EP_5x5mm_P0.65mm_EP3.4x3.4mm; Datasheet: http://www.thatcorp.com/datashts/THAT_5173_Datasheet.pdf
part A pins: 1 SCAP2, 2 Rg1, 3 IN1, 4 IN2, 5 Rg2, 19 VEE, 20 VCC, 21 AGND, 22 SOUT1, 23 SOUT2, 24 SCAP1, 25 PAD
part B pins: 6 ~{{RST}}, 7 ~{{CS}}, 8 SCLK, 9 DIN, 10 TRC, 11 VDD, 12 DGND, 13 DOUT, 14 BSY, 15 GPO0, 16 GPO1, 17 GPO2, 18 GPO3

## THAT5263
designator *  value THAT5263  Reference: U
ki_keywords: dual mic preamp gain controller; ki_description: 2-Channel Digital Preamplifier Controller IC, QFN-24; ki_fp_filters: QFN*1EP*5x5mm*P0.65mm*; Footprint: Package_DFN_QFN:QFN-24-1EP_5x5mm_P0.65mm_EP3.4x3.4mm; Datasheet: http://www.thatcorp.com/datashts/THAT_5263_Datasheet.pdf
part A pins: 3 V-, 4 V+, 5 IN1_CH1, 6 RA_CH1, 7 RG1_CH1, 8 RG2_CH1, 9 RB_CH1, 10 IN2_CH1, 25 PAD
part B pins: 11 ~{{CS}}, 12 SCLK, 13 DIN, 14 DOUT, 15 VDD, 16 DGND, 17 BSY_CH1, 18 BSY_CH2, 19 GPO_CH1, 20 GPO_CH2
part C pins: 1 RB_CH2, 2 IN2_CH2, 21 IN1_CH2, 22 RA_CH2, 23 RG1_CH2, 24 RG2_CH2

## THAT6261
designator *  value THAT6261  Reference: U
ki_keywords: dual mic preamp; ki_description: 2-Channel Low-Noise Programmable-Gain Preamplifier - ADC Driver IC, 1dB Step, QFN-48; ki_fp_filters: QFN*1EP*7x7mm*P0.5mm*; Footprint: Package_DFN_QFN:QFN-48-1EP_7x7mm_P0.5mm_EP5.45x5.45mm; Datasheet: http://www.thatcorp.com/datashts/THAT_626x_Datasheet.pdf
part A pins: 1 RFB+_CH1, 2 CFB-_CH1, 3 CFB+_CH1, 4 VA+, 5 DI+_CH1, 6 DI-_CH1, 7 PO+_CH1, 8 PO-_CH1, 9 VA-, 10 VA+ hidden, 11 CG2_CH1, 12 CG1_CH1, 13 IN-_CH1, 14 IN+_CH1, 15 VA- hidden, 20 VA- hidden, 43 AGND, 44 VCM, 45 VAD, 46 OUT-_CH1, 47 OUT+_CH1, 48 RFB-_CH1, 49 PAD
part B pins: 25 GPO0_CH1, 26 GPO1_CH1, 27 BSY_CH1, 28 DGND, 29 VD, 30 ~{{CS}}, 31 SCLK, 32 DIN, 33 DOUT, 34 BSY_CH2, 35 GPO_CH2, 36 GP1_CH2
part C pins: 16 CG2_CH2, 17 CG1_CH2, 18 IN-_CH2, 19 IN+_CH2, 21 PO+_CH2, 22 PO-_CH2, 23 DI+_CH2, 24 DI-_CH2, 37 CFB+_CH2, 38 CFB-_CH2, 39 RFB+_CH2, 40 RFB-_CH2, 41 OUT+_CH2, 42 OUT-_CH2
part A text: PREAMP; ADC DRIVER
part C text: PREAMP; ADC DRIVER

## THAT6262
designator *  value THAT6262  Reference: U
ki_keywords: dual mic preamp; ki_description: 2-Channel Low-Noise Programmable-Gain Preamplifier - ADC Driver IC, 2dB Step, QFN-48; ki_fp_filters: QFN*1EP*7x7mm*P0.5mm*; Footprint: Package_DFN_QFN:QFN-48-1EP_7x7mm_P0.5mm_EP5.45x5.45mm; Datasheet: http://www.thatcorp.com/datashts/THAT_626x_Datasheet.pdf
part A pins: 1 RFB+_CH1, 2 CFB-_CH1, 3 CFB+_CH1, 4 VA+, 5 DI+_CH1, 6 DI-_CH1, 7 PO+_CH1, 8 PO-_CH1, 9 VA-, 10 VA+ hidden, 11 CG2_CH1, 12 CG1_CH1, 13 IN-_CH1, 14 IN+_CH1, 15 VA- hidden, 20 VA- hidden, 43 AGND, 44 VCM, 45 VAD, 46 OUT-_CH1, 47 OUT+_CH1, 48 RFB-_CH1, 49 PAD
part B pins: 25 GPO0_CH1, 26 GPO1_CH1, 27 BSY_CH1, 28 DGND, 29 VD, 30 ~{{CS}}, 31 SCLK, 32 DIN, 33 DOUT, 34 BSY_CH2, 35 GPO_CH2, 36 GP1_CH2
part C pins: 16 CG2_CH2, 17 CG1_CH2, 18 IN-_CH2, 19 IN+_CH2, 21 PO+_CH2, 22 PO-_CH2, 23 DI+_CH2, 24 DI-_CH2, 37 CFB+_CH2, 38 CFB-_CH2, 39 RFB+_CH2, 40 RFB-_CH2, 41 OUT+_CH2, 42 OUT-_CH2
part A text: PREAMP; ADC DRIVER
part C text: PREAMP; ADC DRIVER